# Altium schematic symbol library maxim.SCHLIB: 502 symbols (part 3 of 4)
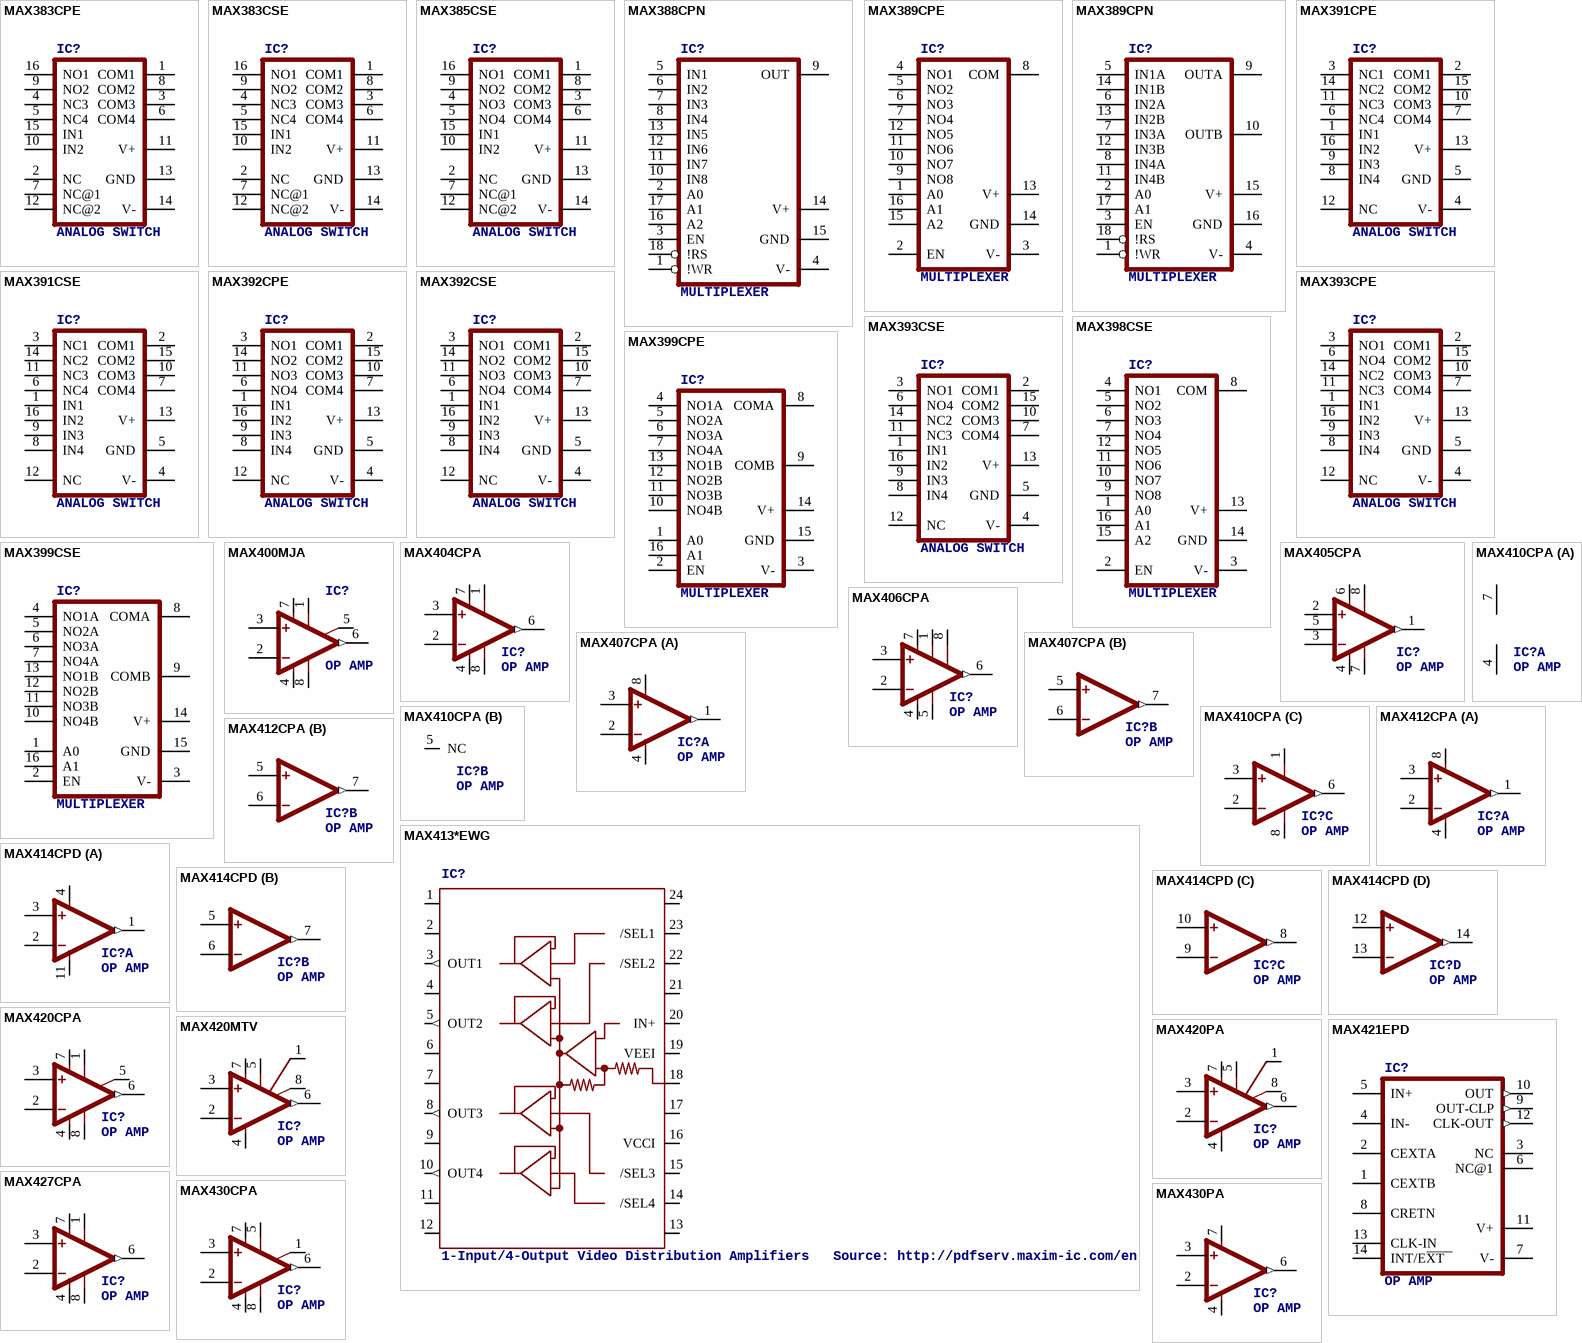
[diagram p32: symbols MAX383CPE to MAX430PA]

## MAX406CPA
designator IC?, comment OP AMP
OC_FARNELL: unknown; OC_NEWARK: unknown
footprint DIL08
pins: 1 OFF1, 2 -IN, 3 +IN, 4 V- (power), 5 OFF2, 6 OUT (out), 7 V+ (power), 8 BW

## MAX407CPA
designator IC?, comment OP AMP
MPN: MAX407CPA+; OC_FARNELL: unknown; OC_NEWARK: 03M8833
footprint DIL08
part A pins: 1 OUT (out), 2 -IN, 3 +IN, 4 V- (power), 8 V+ (power)
part B pins: 5 +IN, 6 -IN, 7 OUT (out)

## MAX410CPA
designator IC?, comment OP AMP
MPN: MAX410CPA; OC_FARNELL: unknown; OC_NEWARK: 34C3886
footprint DIL08
part A pins: 4 V- (power), 7 V+ (power)
part B pins: 5 NC
part C pins: 1 OFF1, 2 -IN, 3 +IN, 6 OUT (out), 8 OFF2

## MAX412CPA
designator IC?, comment OP AMP
MPN: MAX412CPA; OC_FARNELL: unknown; OC_NEWARK: 99K3347
footprint DIL08
part A pins: 1 OUT (out), 2 -IN, 3 +IN, 4 V- (power), 8 V+ (power)
part B pins: 5 +IN, 6 -IN, 7 OUT (out)

## MAX413*EWG
designator IC?, comment 1-Input/4-Output Video Distribution Amplifiers   Source: http://pdfserv.maxim-ic.com/en/ds/MAX4137-MAX4138.pdf
OC_FARNELL: unknown; OC_NEWARK: unknown
footprint SO24L
pins: 1 NC1, 2 VCCO@1 (power), 3 OUT1 (out), 4 GND@1 (power), 5 OUT2 (out), 6 VEEO@1 (power), 7 VEEO@2 (power), 8 OUT3 (out), 9 GND@2 (power), 10 OUT4 (out), 11 VCCO@2 (power), 12 NC12, 13 NC13, 14 /SEL4, 15 /SEL3, 16 VCCI (power), 17 NC17, 18 AGND@3 (power), 19 VEEI (power), 20 IN+, 21 AGND@4 (power), 22 /SEL2, 23 /SEL1, 24 NC24

## MAX414CPD
designator IC?, comment OP AMP
MPN: MAX414CPD+; OC_FARNELL: unknown; OC_NEWARK: 18M7422
footprint DIL14
part A pins: 1 OUT (out), 2 -IN, 3 +IN, 4 V+ (power), 11 V- (power)
part B pins: 5 +IN, 6 -IN, 7 OUT (out)
part C pins: 8 OUT (out), 9 -IN, 10 +IN
part D pins: 12 +IN, 13 -IN, 14 OUT (out)

## MAX420CPA
designator IC?, comment OP AMP
OC_FARNELL: unknown; OC_NEWARK: unknown
footprint DIL08
pins: 1 CEXTA, 2 -IN, 3 +IN, 4 V- (power), 5 CRETN, 6 OUT (out), 7 V+ (power), 8 CEXTB

## MAX420MTV
designator IC?, comment OP AMP
OC_FARNELL: unknown; OC_NEWARK: unknown
footprint TO99
pins: 1 CEXT1, 2 -IN, 3 +IN, 4 V- (power), 5 CRET, 6 OUT (out), 7 V+ (power), 8 CEXT2

## MAX420PA
designator IC?, comment OP AMP
OC_FARNELL: unknown; OC_NEWARK: unknown
footprint DIL08
pins: 1 CEXT1, 2 -IN, 3 +IN, 4 V- (power), 5 CRET, 6 OUT (out), 7 V+ (power), 8 CEXT2

## MAX421EPD
designator IC?, comment OP AMP
OC_FARNELL: unknown; OC_NEWARK: unknown
footprint DIL14
pins: 1 CEXTB, 2 CEXTA, 3 NC, 4 IN-, 5 IN+, 6 NC@1, 7 V- (power), 8 CRETN, 9 OUT-CLP (out), 10 OUT (out), 11 V+ (power), 12 CLK-OUT (out), 13 CLK-IN, 14 INT/EXT

## MAX427CPA
designator IC?, comment OP AMP
OC_FARNELL: unknown; OC_NEWARK: unknown
footprint DIL08
pins: 1 OFF1, 2 -IN, 3 +IN, 4 V- (power), 6 OUT (out), 7 V+ (power), 8 OFF2

## MAX430CPA
designator IC?, comment OP AMP
OC_FARNELL: unknown; OC_NEWARK: unknown
footprint DIL08
pins: 1 NC, 2 -IN, 3 +IN, 4 V- (power), 5 NC@1, 6 OUT (out), 7 V+ (power), 8 NC@2

## MAX430PA
designator IC?, comment OP AMP
OC_FARNELL: unknown; OC_NEWARK: unknown
footprint DIL08
pins: 2 -IN, 3 +IN, 4 V- (power), 6 OUT (out), 7 V+ (power)

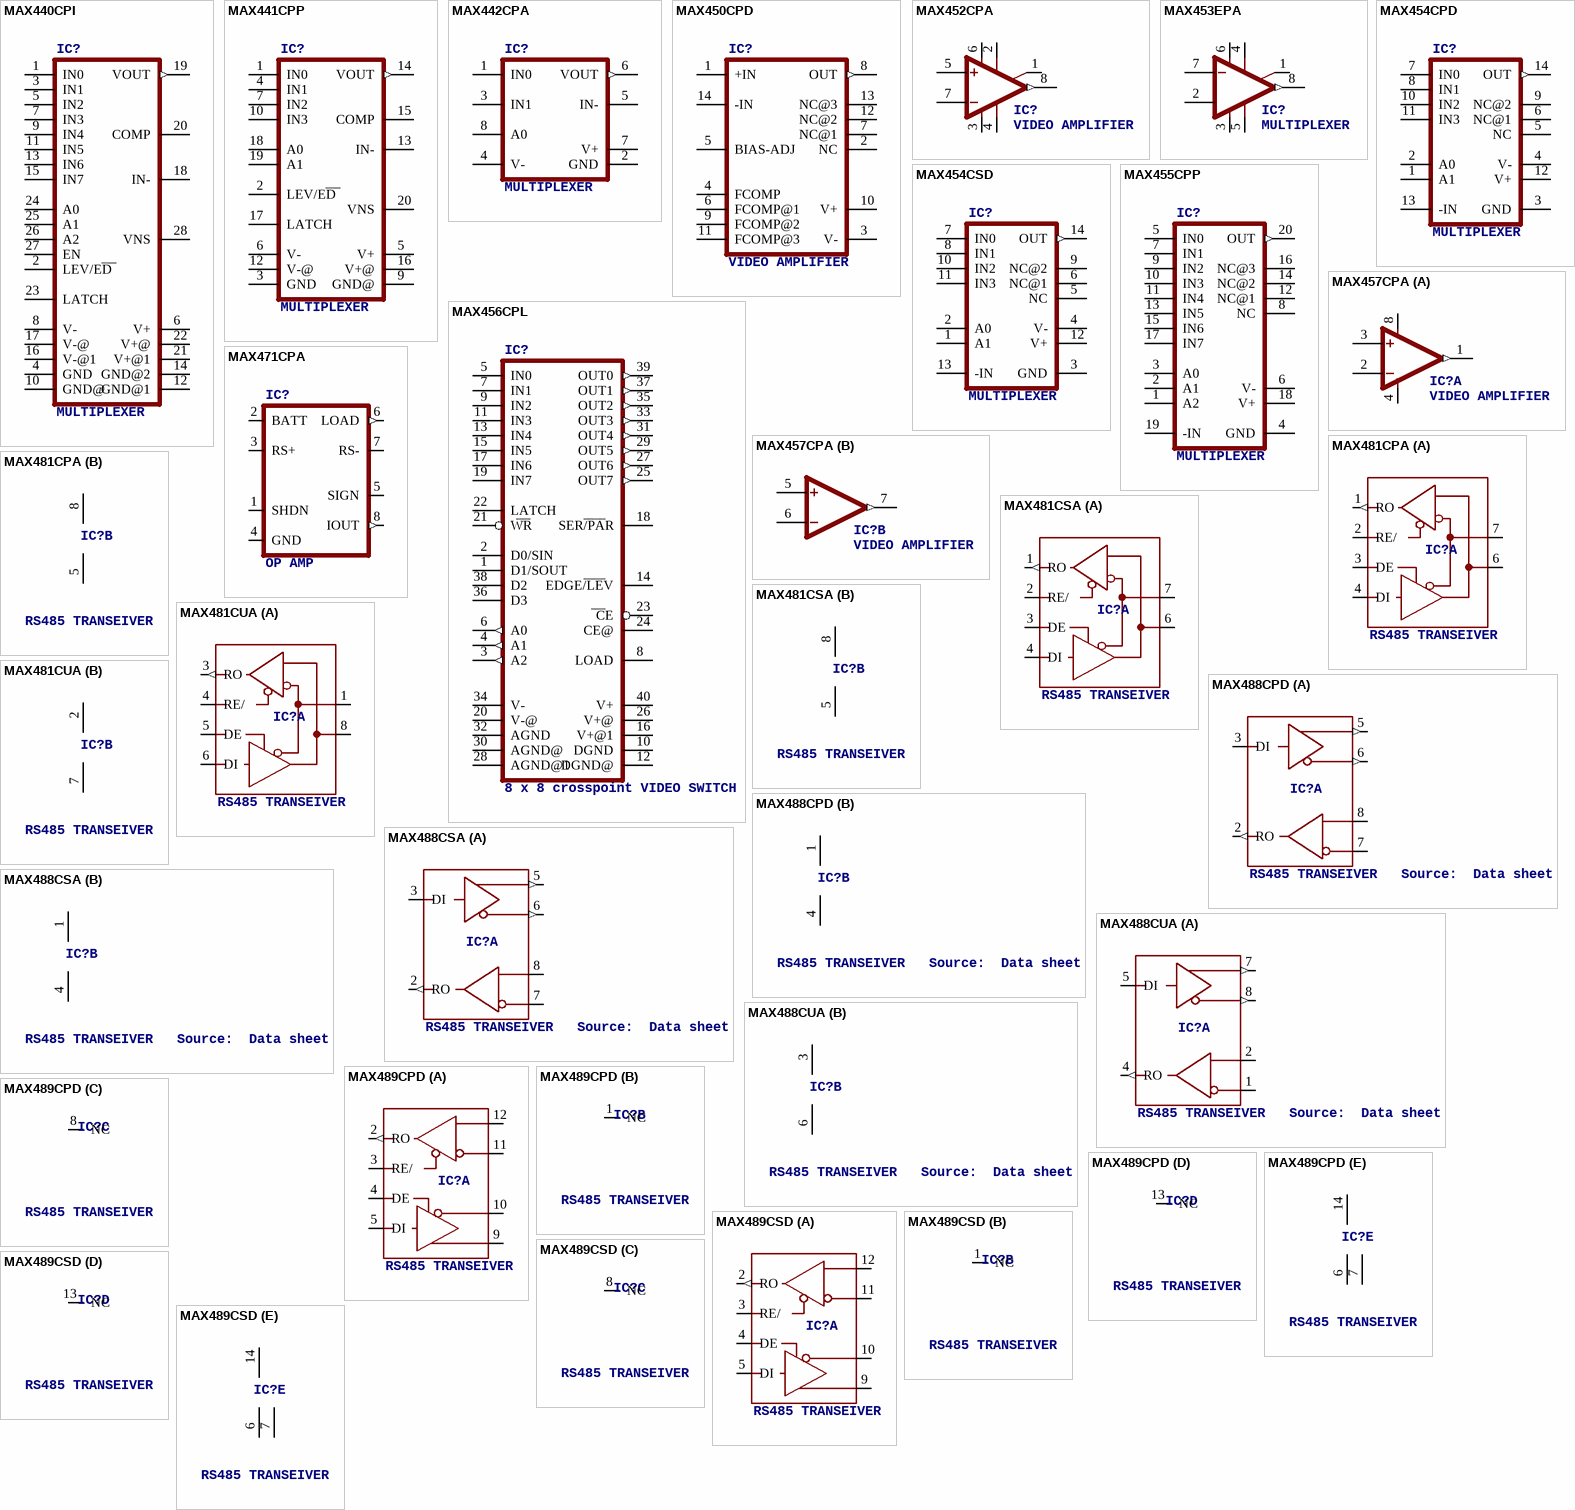
[diagram p17: symbols MAX440CPI to MAX489CSD]

## MAX440CPI
designator IC?, comment MULTIPLEXER
OC_FARNELL: unknown; OC_NEWARK: unknown
footprint DIL28-6
pins: 1 IN0, 2 LEV/ED, 3 IN1, 4 GND (power), 5 IN2, 6 V+ (power), 7 IN3, 8 V- (power), 9 IN4, 10 GND@ (power), 11 IN5, 12 GND@1 (power), 13 IN6, 14 GND@2 (power), 15 IN7, 16 V-@1 (power), 17 V-@ (power), 18 IN-, 19 VOUT (out), 20 COMP, 21 V+@1 (power), 22 V+@ (power), 23 LATCH, 24 A0, 25 A1, 26 A2, 27 EN, 28 VNS

## MAX441CPP
designator IC?, comment MULTIPLEXER
OC_FARNELL: unknown; OC_NEWARK: unknown
footprint DIL20
pins: 1 IN0, 2 LEV/ED, 3 GND (power), 4 IN1, 5 V+ (power), 6 V- (power), 7 IN2, 9 GND@ (power), 10 IN3, 12 V-@ (power), 13 IN-, 14 VOUT (out), 15 COMP, 16 V+@ (power), 17 LATCH, 18 A0, 19 A1, 20 VNS

## MAX442CPA
designator IC?, comment MULTIPLEXER
OC_FARNELL: unknown; OC_NEWARK: unknown
footprint DIL08
pins: 1 IN0, 2 GND (power), 3 IN1, 4 V- (power), 5 IN-, 6 VOUT (out), 7 V+ (power), 8 A0

## MAX450CPD
designator IC?, comment VIDEO AMPLIFIER
OC_FARNELL: unknown; OC_NEWARK: unknown
footprint DIL14
pins: 1 +IN, 2 NC, 3 V- (power), 4 FCOMP, 5 BIAS-ADJ, 6 FCOMP@1, 7 NC@1, 8 OUT (out), 9 FCOMP@2, 10 V+ (power), 11 FCOMP@3, 12 NC@2, 13 NC@3, 14 -IN

## MAX452CPA
designator IC?, comment VIDEO AMPLIFIER
MPN: MAX452CPA+; OC_FARNELL: 788910; OC_NEWARK: 99K3387
footprint DIL08
pins: 1 NC, 2 NC@1, 3 V- (power), 4 NC@2, 5 +IN, 6 V+ (power), 7 -IN, 8 OUT (out)

## MAX453EPA
designator IC?, comment MULTIPLEXER
OC_FARNELL: unknown; OC_NEWARK: unknown
footprint DIL08
pins: 1 A0, 2 GND (power), 3 V- (power), 4 IN0, 5 IN1, 6 V+ (power), 7 -IN, 8 OUT (out)

## MAX454CPD
designator IC?, comment MULTIPLEXER
MPN: MAX454CPD+; MF: MAXIM; OC_FARNELL: unknown; OC_NEWARK: 67K5326
footprint DIL14
pins: 1 A1, 2 A0, 3 GND (power), 4 V- (power), 5 NC, 6 NC@1, 7 IN0, 8 IN1, 9 NC@2, 10 IN2, 11 IN3, 12 V+ (power), 13 -IN, 14 OUT (out)

## MAX454CSD
designator IC?, comment MULTIPLEXER
MPN: MAX454CSD+; OC_FARNELL: unknown; OC_NEWARK: 67K5327
footprint SO14
pins: 1 A1, 2 A0, 3 GND (power), 4 V- (power), 5 NC, 6 NC@1, 7 IN0, 8 IN1, 9 NC@2, 10 IN2, 11 IN3, 12 V+ (power), 13 -IN, 14 OUT (out)

## MAX455CPP
designator IC?, comment MULTIPLEXER
MPN: MAX455CPP+; MF: MAXIM; OC_FARNELL: 1422330; OC_NEWARK: 68K4740
footprint DIL20
pins: 1 A2, 2 A1, 3 A0, 4 GND (power), 5 IN0, 6 V- (power), 7 IN1, 8 NC, 9 IN2, 10 IN3, 11 IN4, 12 NC@1, 13 IN5, 14 NC@2, 15 IN6, 16 NC@3, 17 IN7, 18 V+ (power), 19 -IN, 20 OUT (out)

## MAX456CPL
designator IC?, comment 8 x 8 crosspoint VIDEO SWITCH
MPN: MAX456CPL+; OC_FARNELL: unknown; OC_NEWARK: 65K6903
footprint DIL40
pins: 1 D1/SOUT, 2 D0/SIN, 3 A2 (out), 4 A1 (out), 5 IN0, 6 A0 (out), 7 IN1, 8 LOAD, 9 IN2, 10 DGND (power), 11 IN3, 12 DGND@ (power), 13 IN4, 14 EDGE/LEV, 15 IN5, 16 V+@1 (power), 17 IN6, 18 SER/PAR, 19 IN7, 20 V-@ (power), 21 WR, 22 LATCH, 23 CE, 24 CE@, 25 OUT7 (out), 26 V+@ (power), 27 OUT6 (out), 28 AGND@1 (power), 29 OUT5 (out), 30 AGND@ (power), 31 OUT4 (out), 32 AGND (power), 33 OUT3 (out), 34 V- (power), 35 OUT2 (out), 36 D3, 37 OUT1 (out), 38 D2, 39 OUT0 (out), 40 V+ (power)

## MAX457CPA
designator IC?, comment VIDEO AMPLIFIER
MPN: MAX457CPA+; OC_FARNELL: 1188058; OC_NEWARK: 73K8613
footprint DIL08
part A pins: 1 OUT (out), 2 -IN, 3 +IN, 4 V- (power), 8 V+ (power)
part B pins: 5 +IN, 6 -IN, 7 OUT (out)

## MAX471CPA
designator IC?, comment OP AMP
OC_FARNELL: unknown; OC_NEWARK: unknown
footprint DIL08
pins: 1 SHDN, 2 BATT, 3 RS+, 4 GND (power), 5 SIGN (oc), 6 LOAD (out), 7 RS-, 8 IOUT (out)

## MAX481CPA
designator IC?, comment RS485 TRANSEIVER
MPN: MAX481CPA+; OC_FARNELL: unknown; OC_NEWARK: 99K3445
footprint DIL08
part A pins: 1 RO (out), 2 RE/, 3 DE, 4 DI, 6 A, 7 B
part B pins: 5 GND (power), 8 VCC (power)

## MAX481CSA
designator IC?, comment RS485 TRANSEIVER
MPN: MAX481CSA; MF: MAXIM; OC_FARNELL: unknown; OC_NEWARK: 90C3817
footprint SO08
part A pins: 1 RO (out), 2 RE/, 3 DE, 4 DI, 6 A, 7 B
part B pins: 5 GND (power), 8 VCC (power)

## MAX481CUA
designator IC?, comment RS485 TRANSEIVER
MPN: MAX481CUA+; OC_FARNELL: unknown; OC_NEWARK: 71P2381
footprint UMAX8
part A pins: 1 B, 3 RO (out), 4 RE/, 5 DE, 6 DI, 8 A
part B pins: 2 VCC (power), 7 GND (power)

## MAX488CPD
designator IC?, comment RS485 TRANSEIVER   Source:  Data sheet
OC_FARNELL: unknown; OC_NEWARK: unknown
footprint DIL08
part A pins: 2 RO (out), 3 DI, 5 Y (out), 6 Z (out), 7 B, 8 A
part B pins: 1 VCC (power), 4 GND (power)

## MAX488CSA
designator IC?, comment RS485 TRANSEIVER   Source:  Data sheet
MPN: MAX488CSA; MF: MAXIM; OC_FARNELL: 3534170; OC_NEWARK: 34C3921
footprint SO08
part A pins: 2 RO (out), 3 DI, 5 Y (out), 6 Z (out), 7 B, 8 A
part B pins: 1 VCC (power), 4 GND (power)

## MAX488CUA
designator IC?, comment RS485 TRANSEIVER   Source:  Data sheet
MPN: MAX488CUA+; OC_FARNELL: unknown; OC_NEWARK: 99K3447
footprint UMAX8
part A pins: 1 B, 2 A, 4 RO (out), 5 DI, 7 Y (out), 8 Z (out)
part B pins: 3 VCC (power), 6 GND (power)

## MAX489CPD
designator IC?, comment RS485 TRANSEIVER
MPN: MAX489CPD; MF: MAXIM; OC_FARNELL: 9725148; OC_NEWARK: 34C3922
footprint DIL14
part A pins: 2 RO (out), 3 RE/, 4 DE, 5 DI, 9 Y, 10 Z, 11 B, 12 A
part B pins: 1 NC
part C pins: 8 NC
part D pins: 13 NC
part E pins: 6 GND@1 (power), 7 GND@2 (power), 14 VCC (power)

## MAX489CSD
designator IC?, comment RS485 TRANSEIVER
MPN: MAX489CSD; MF: MAXIM; OC_FARNELL: 9724559; OC_NEWARK: 34C3923
footprint SO14
part A pins: 2 RO (out), 3 RE/, 4 DE, 5 DI, 9 Y, 10 Z, 11 B, 12 A
part B pins: 1 NC
part C pins: 8 NC
part D pins: 13 NC
part E pins: 6 GND@1 (power), 7 GND@2 (power), 14 VCC (power)

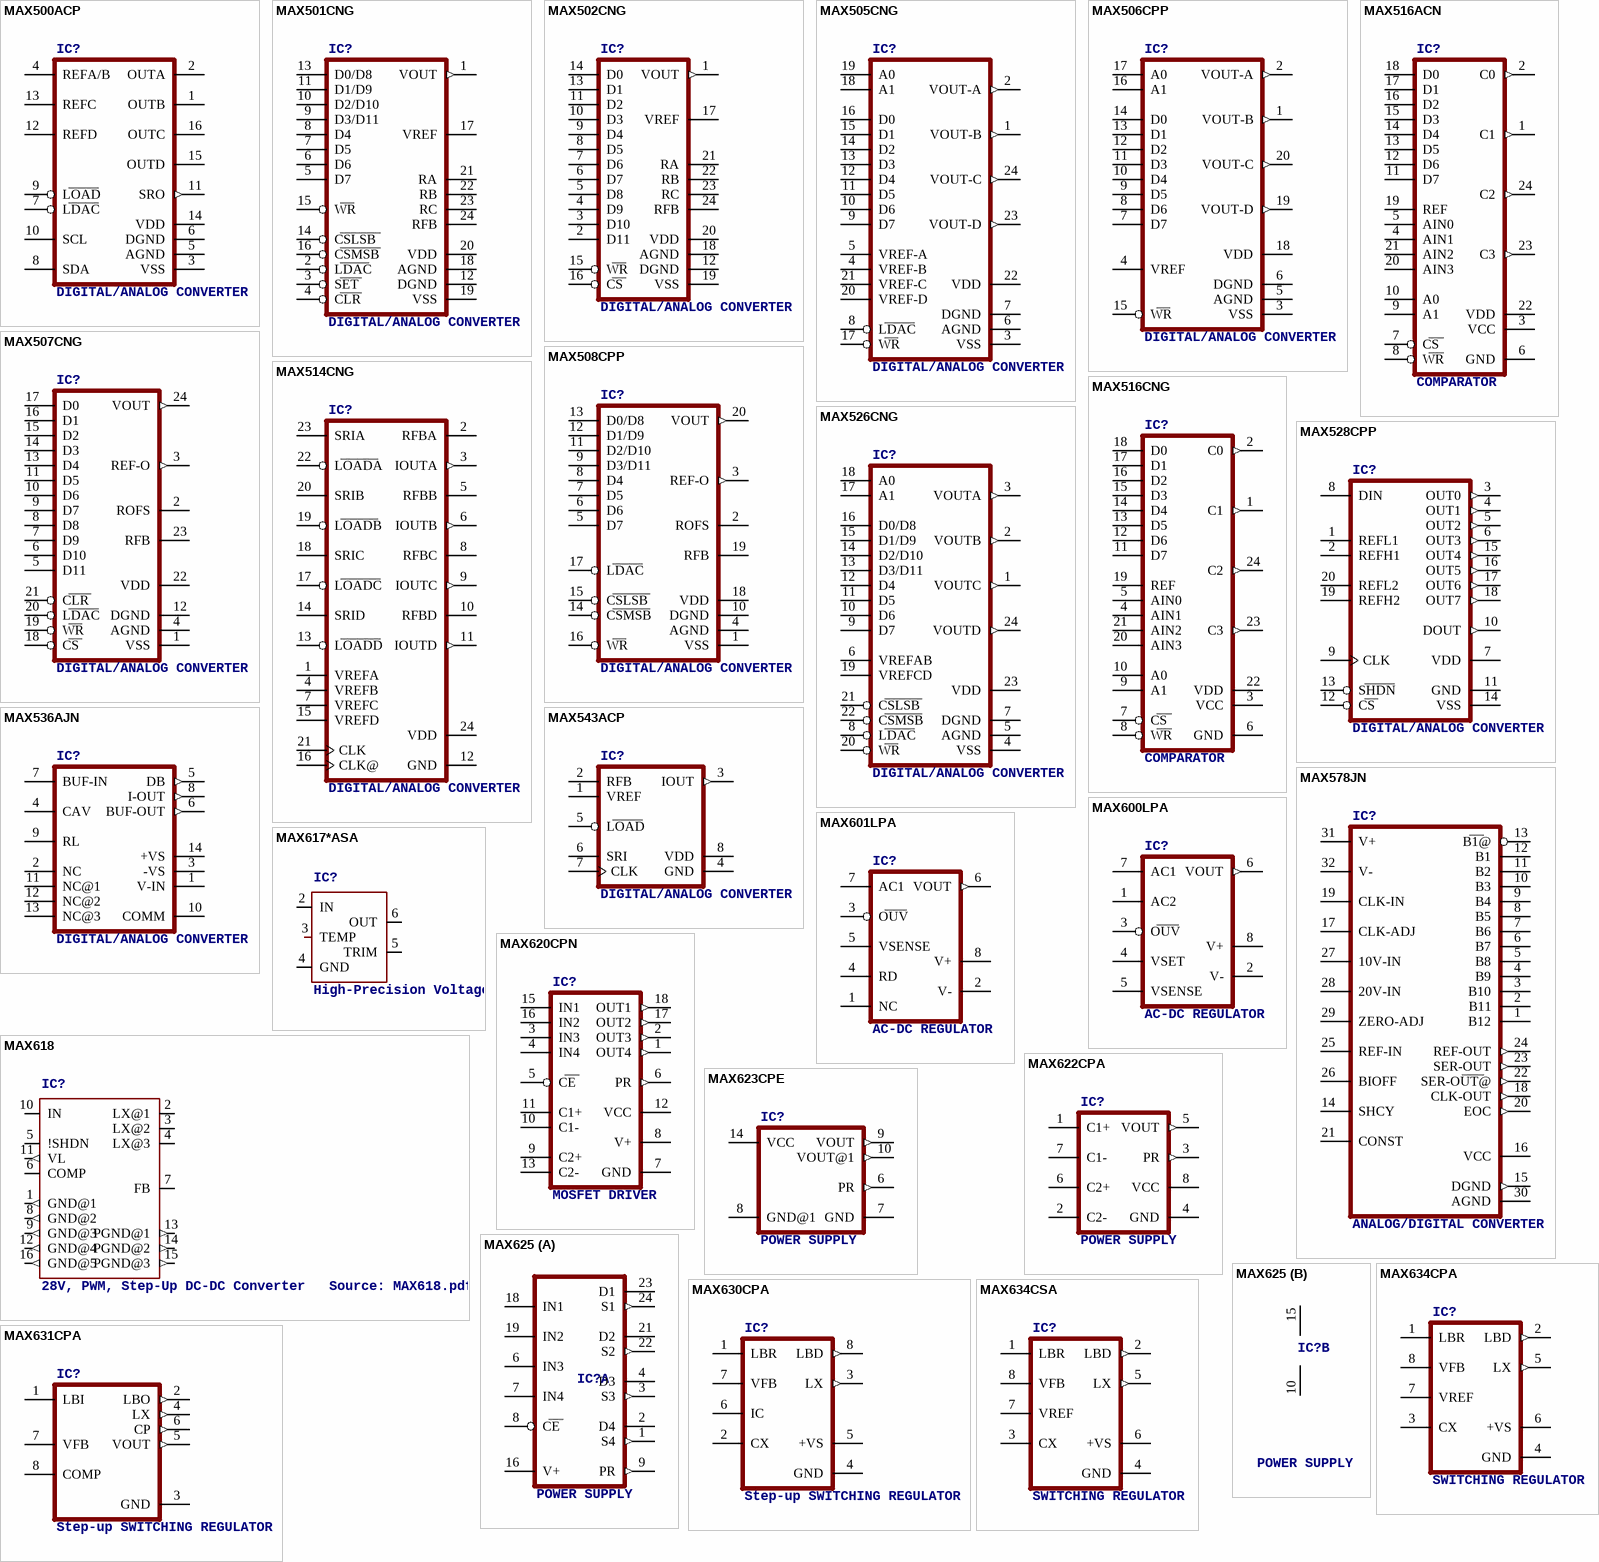
[diagram p18: symbols MAX500ACP to MAX634CSA]

## MAX500ACP
designator IC?, comment DIGITAL/ANALOG CONVERTER
MPN: MAX500ACPE+; MF: MAXIM; OC_FARNELL: 9726373; OC_NEWARK: 33K2077
footprint DIL16
pins: 1 OUTB (oe), 2 OUTA (oe), 3 VSS (power), 4 REFA/B, 5 AGND (power), 6 DGND (power), 7 LDAC, 8 SDA, 9 LOAD, 10 SCL, 11 SRO (out), 12 REFD, 13 REFC, 14 VDD (power), 15 OUTD (oe), 16 OUTC (oe)

## MAX501CNG
designator IC?, comment DIGITAL/ANALOG CONVERTER
OC_FARNELL: unknown; OC_NEWARK: unknown
footprint DIL24-3
pins: 1 VOUT (out), 2 LDAC, 3 SET, 4 CLR, 5 D7, 6 D6, 7 D5, 8 D4, 9 D3/D11, 10 D2/D10, 11 D1/D9, 12 DGND (power), 13 D0/D8, 14 CSLSB, 15 WR, 16 CSMSB, 17 VREF, 18 AGND (power), 19 VSS (power), 20 VDD (power), 21 RA, 22 RB, 23 RC, 24 RFB

## MAX502CNG
designator IC?, comment DIGITAL/ANALOG CONVERTER
OC_FARNELL: unknown; OC_NEWARK: unknown
footprint DIL24-3
pins: 1 VOUT (out), 2 D11, 3 D10, 4 D9, 5 D8, 6 D7, 7 D6, 8 D5, 9 D4, 10 D3, 11 D2, 12 DGND (power), 13 D1, 14 D0, 15 WR, 16 CS, 17 VREF, 18 AGND (power), 19 VSS (power), 20 VDD (power), 21 RA, 22 RB, 23 RC, 24 RFB

## MAX505CNG
designator IC?, comment DIGITAL/ANALOG CONVERTER
OC_FARNELL: unknown; OC_NEWARK: unknown
footprint DIL24-3
pins: 1 VOUT-B (out), 2 VOUT-A (out), 3 VSS (power), 4 VREF-B, 5 VREF-A, 6 AGND (power), 7 DGND (power), 8 LDAC, 9 D7, 10 D6, 11 D5, 12 D4, 13 D3, 14 D2, 15 D1, 16 D0, 17 WR, 18 A1, 19 A0, 20 VREF-D, 21 VREF-C, 22 VDD (power), 23 VOUT-D (out), 24 VOUT-C (out)

## MAX506CPP
designator IC?, comment DIGITAL/ANALOG CONVERTER
OC_FARNELL: unknown; OC_NEWARK: unknown
footprint DIL20
pins: 1 VOUT-B (out), 2 VOUT-A (out), 3 VSS (power), 4 VREF, 5 AGND (power), 6 DGND (power), 7 D7, 8 D6, 9 D5, 10 D4, 11 D3, 12 D2, 13 D1, 14 D0, 15 WR, 16 A1, 17 A0, 18 VDD (power), 19 VOUT-D (out), 20 VOUT-C (out)

## MAX507CNG
designator IC?, comment DIGITAL/ANALOG CONVERTER
OC_FARNELL: unknown; OC_NEWARK: unknown
footprint DIL24-3
pins: 1 VSS (power), 2 ROFS, 3 REF-O (out), 4 AGND (power), 5 D11, 6 D10, 7 D9, 8 D8, 9 D7, 10 D6, 11 D5, 12 DGND (power), 13 D4, 14 D3, 15 D2, 16 D1, 17 D0, 18 CS, 19 WR, 20 LDAC, 21 CLR, 22 VDD (power), 23 RFB, 24 VOUT (out)

## MAX508CPP
designator IC?, comment DIGITAL/ANALOG CONVERTER
OC_FARNELL: unknown; OC_NEWARK: unknown
footprint DIL20
pins: 1 VSS (power), 2 ROFS, 3 REF-O (out), 4 AGND (power), 5 D7, 6 D6, 7 D5, 8 D4, 9 D3/D11, 10 DGND (power), 11 D2/D10, 12 D1/D9, 13 D0/D8, 14 CSMSB, 15 CSLSB, 16 WR, 17 LDAC, 18 VDD (power), 19 RFB, 20 VOUT (out)

## MAX514CNG
designator IC?, comment DIGITAL/ANALOG CONVERTER
OC_FARNELL: unknown; OC_NEWARK: unknown
footprint DIL24-3
pins: 1 VREFA, 2 RFBA, 3 IOUTA (out), 4 VREFB, 5 RFBB, 6 IOUTB (out), 7 VREFC, 8 RFBC, 9 IOUTC (out), 10 RFBD, 11 IOUTD (out), 12 GND (power), 13 LOADD, 14 SRID, 15 VREFD, 16 CLK@, 17 LOADC, 18 SRIC, 19 LOADB, 20 SRIB, 21 CLK, 22 LOADA, 23 SRIA, 24 VDD (power)

## MAX516ACN
designator IC?, comment COMPARATOR
MPN: MAX516ACNG+; MF: MAXIM; OC_FARNELL: unknown; OC_NEWARK: 61K0519
footprint DIL24-3
pins: 1 C1 (out), 2 C0 (out), 3 VCC (power), 4 AIN1, 5 AIN0, 6 GND (power), 7 CS, 8 WR, 9 A1, 10 A0, 11 D7, 12 D6, 13 D5, 14 D4, 15 D3, 16 D2, 17 D1, 18 D0, 19 REF, 20 AIN3, 21 AIN2, 22 VDD (power), 23 C3 (out), 24 C2 (out)

## MAX516CNG
designator IC?, comment COMPARATOR
OC_FARNELL: unknown; OC_NEWARK: unknown
footprint DIL24-3
pins: 1 C1 (out), 2 C0 (out), 3 VCC (power), 4 AIN1, 5 AIN0, 6 GND (power), 7 CS, 8 WR, 9 A1, 10 A0, 11 D7, 12 D6, 13 D5, 14 D4, 15 D3, 16 D2, 17 D1, 18 D0, 19 REF, 20 AIN3, 21 AIN2, 22 VDD (power), 23 C3 (out), 24 C2 (out)

## MAX526CNG
designator IC?, comment DIGITAL/ANALOG CONVERTER
OC_FARNELL: unknown; OC_NEWARK: unknown
footprint DIL24-3
pins: 1 VOUTC (out), 2 VOUTB (out), 3 VOUTA (out), 4 VSS (power), 5 AGND (power), 6 VREFAB, 7 DGND (power), 8 LDAC, 9 D7, 10 D6, 11 D5, 12 D4, 13 D3/D11, 14 D2/D10, 15 D1/D9, 16 D0/D8, 17 A1, 18 A0, 19 VREFCD, 20 WR, 21 CSLSB, 22 CSMSB, 23 VDD (power), 24 VOUTD (out)

## MAX528CPP
designator IC?, comment DIGITAL/ANALOG CONVERTER
MPN: MAX528CPP; OC_FARNELL: 1379992; OC_NEWARK: 78C2818
footprint DIL20
pins: 1 REFL1, 2 REFH1, 3 OUT0 (out), 4 OUT1 (out), 5 OUT2 (out), 6 OUT3 (out), 7 VDD (power), 8 DIN, 9 CLK, 10 DOUT (out), 11 GND (power), 12 CS, 13 SHDN, 14 VSS (power), 15 OUT4 (out), 16 OUT5 (out), 17 OUT6 (out), 18 OUT7 (out), 19 REFH2, 20 REFL2

## MAX536AJN
designator IC?, comment DIGITAL/ANALOG CONVERTER
OC_FARNELL: unknown; OC_NEWARK: unknown
footprint DIL14
pins: 1 V-IN (power), 2 NC, 3 -VS (power), 4 CAV, 5 DB (out), 6 BUF-OUT (out), 7 BUF-IN, 8 I-OUT (out), 9 RL, 10 COMM (power), 11 NC@1, 12 NC@2, 13 NC@3, 14 +VS (power)

## MAX543ACP
designator IC?, comment DIGITAL/ANALOG CONVERTER
MPN: MAX543ACPA+; OC_FARNELL: unknown; OC_NEWARK: 67K5720
footprint DIL08
pins: 1 VREF, 2 RFB, 3 IOUT (out), 4 GND (power), 5 LOAD, 6 SRI, 7 CLK, 8 VDD (power)

## MAX578JN
designator IC?, comment ANALOG/DIGITAL CONVERTER
OC_FARNELL: unknown; OC_NEWARK: unknown
footprint DIL32
pins: 1 B12 (hiz), 2 B11 (hiz), 3 B10 (hiz), 4 B9 (hiz), 5 B8 (hiz), 6 B7 (hiz), 7 B6 (hiz), 8 B5 (hiz), 9 B4 (hiz), 10 B3 (hiz), 11 B2 (hiz), 12 B1 (hiz), 13 B1@ (hiz), 14 SHCY, 15 DGND (out), 16 VCC (power), 17 CLK-ADJ, 18 CLK-OUT (out), 19 CLK-IN, 20 EOC (out), 21 CONST, 22 SER-OUT@ (out), 23 SER-OUT (out), 24 REF-OUT (out), 25 REF-IN, 26 BIOFF, 27 10V-IN, 28 20V-IN, 29 ZERO-ADJ, 30 AGND (power), 31 V+, 32 V-

## MAX600LPA
designator IC?, comment AC-DC REGULATOR
OC_FARNELL: unknown; OC_NEWARK: unknown
footprint DIL08
pins: 1 AC2, 2 V- (power), 3 OUV, 4 VSET, 5 VSENSE, 6 VOUT (out), 7 AC1, 8 V+ (power)

## MAX601LPA
designator IC?, comment AC-DC REGULATOR
OC_FARNELL: unknown; OC_NEWARK: unknown
footprint DIL08
pins: 1 NC, 2 V- (power), 3 OUV, 4 RD, 5 VSENSE, 6 VOUT (out), 7 AC1, 8 V+ (power)

## MAX617*ASA
designator IC?, comment High-Precision Voltage References with Temperature Sensor   Source: http://datasheets.maxim-ic.com/en/ds/MAX6173-MAX6177.pdf
MPN: MAX6173AASA+; MPN: MAX6173BASA+; MPN: MAX6174AASA+; MPN: MAX6174BASA+; MPN: MAX6175AASA+; MPN: MAX6175BASA+; MPN: MAX6176AASA+; MPN: MAX6176BASA+; MPN: MAX6177AASA+; MPN: MAX6177BASA+; OC_FARNELL: unknown; OC_NEWARK: 61K0602; OC_NEWARK: 61K0604; OC_NEWARK: 61K0606; OC_NEWARK: 61K0608; OC_FARNELL: 1800780; OC_NEWARK: 61K0610; OC_NEWARK: 61K0612; OC_NEWARK: 61K0614; OC_NEWARK: 61K0616; OC_NEWARK: 61K0618; OC_NEWARK: 61K0620
footprint SO08
pins: 2 IN, 3 TEMP, 4 GND (power), 5 TRIM, 6 OUT

## MAX618
designator IC?, comment 28V, PWM, Step-Up DC-DC Converter   Source: MAX618.pdf
MPN: MAX618EEE+T; OC_FARNELL: 1379776; OC_NEWARK: 67K5972
footprint QSOP16
pins: 1 GND@1 (out), 2 LX@1 (oc), 3 LX@2 (oc), 4 LX@3 (oc), 5 !SHDN, 6 COMP, 7 FB, 8 GND@2 (out), 9 GND@3 (out), 10 IN, 11 VL (out), 12 GND@4 (out), 13 PGND@1 (out), 14 PGND@2 (out), 15 PGND@3 (out), 16 GND@5 (out)

## MAX620CPN
designator IC?, comment MOSFET DRIVER
MPN: MAX620CPN+; OC_FARNELL: unknown; OC_NEWARK: 27M4142
footprint DIL18
pins: 1 OUT4 (out), 2 OUT3 (out), 3 IN3, 4 IN4, 5 CE, 6 PR (out), 7 GND (power), 8 V+ (oe), 9 C2+, 10 C1-, 11 C1+, 12 VCC (power), 13 C2-, 15 IN1, 16 IN2, 17 OUT2 (out), 18 OUT1 (out)

## MAX622CPA
designator IC?, comment POWER SUPPLY
OC_FARNELL: unknown; OC_NEWARK: unknown
footprint DIL08
pins: 1 C1+, 2 C2-, 3 PR (out), 4 GND (power), 5 VOUT (out), 6 C2+, 7 C1-, 8 VCC (power)

## MAX623CPE
designator IC?, comment POWER SUPPLY
OC_FARNELL: unknown; OC_NEWARK: unknown
footprint DIL16
pins: 6 PR (out), 7 GND (power), 8 GND@1 (power), 9 VOUT (out), 10 VOUT@1 (out), 14 VCC (power)

## MAX625
designator IC?, comment POWER SUPPLY
MPN: MAX6250AEPA+; OC_FARNELL: 1714966; OC_NEWARK: 89K4247
footprint DIL24-3
part A pins: 1 S4 (out), 2 D4, 3 S3 (out), 4 D3, 6 IN3, 7 IN4, 8 CE, 9 PR (out), 16 V+ (power), 18 IN1, 19 IN2, 21 D2, 22 S2 (out), 23 D1, 24 S1 (out)
part B pins: 10 GND (power), 15 VCC (power)

## MAX630CPA
designator IC?, comment Step-up SWITCHING REGULATOR
MPN: MAX630CPA; MF: MAXIM; OC_FARNELL: unknown; OC_NEWARK: 34C3947
footprint DIL08
pins: 1 LBR, 2 CX, 3 LX (out), 4 GND (power), 5 +VS (power), 6 IC, 7 VFB, 8 LBD (out)

## MAX631CPA
designator IC?, comment Step-up SWITCHING REGULATOR
OC_FARNELL: unknown; OC_NEWARK: unknown
footprint DIL08
pins: 1 LBI, 2 LBO (out), 3 GND (power), 4 LX (out), 5 VOUT (out), 6 CP (out), 7 VFB, 8 COMP

## MAX634CPA
designator IC?, comment SWITCHING REGULATOR
MPN: MAX634CPA; OC_FARNELL: unknown; OC_NEWARK: 78C4814
footprint DIL08
pins: 1 LBR, 2 LBD (out), 3 CX, 4 GND (power), 5 LX (out), 6 +VS (power), 7 VREF, 8 VFB

## MAX634CSA
designator IC?, comment SWITCHING REGULATOR
MPN: MAX634CSA+; OC_FARNELL: 1673203; OC_NEWARK: 68K4925
footprint SO08
pins: 1 LBR, 2 LBD (out), 3 CX, 4 GND (power), 5 LX (out), 6 +VS (power), 7 VREF, 8 VFB

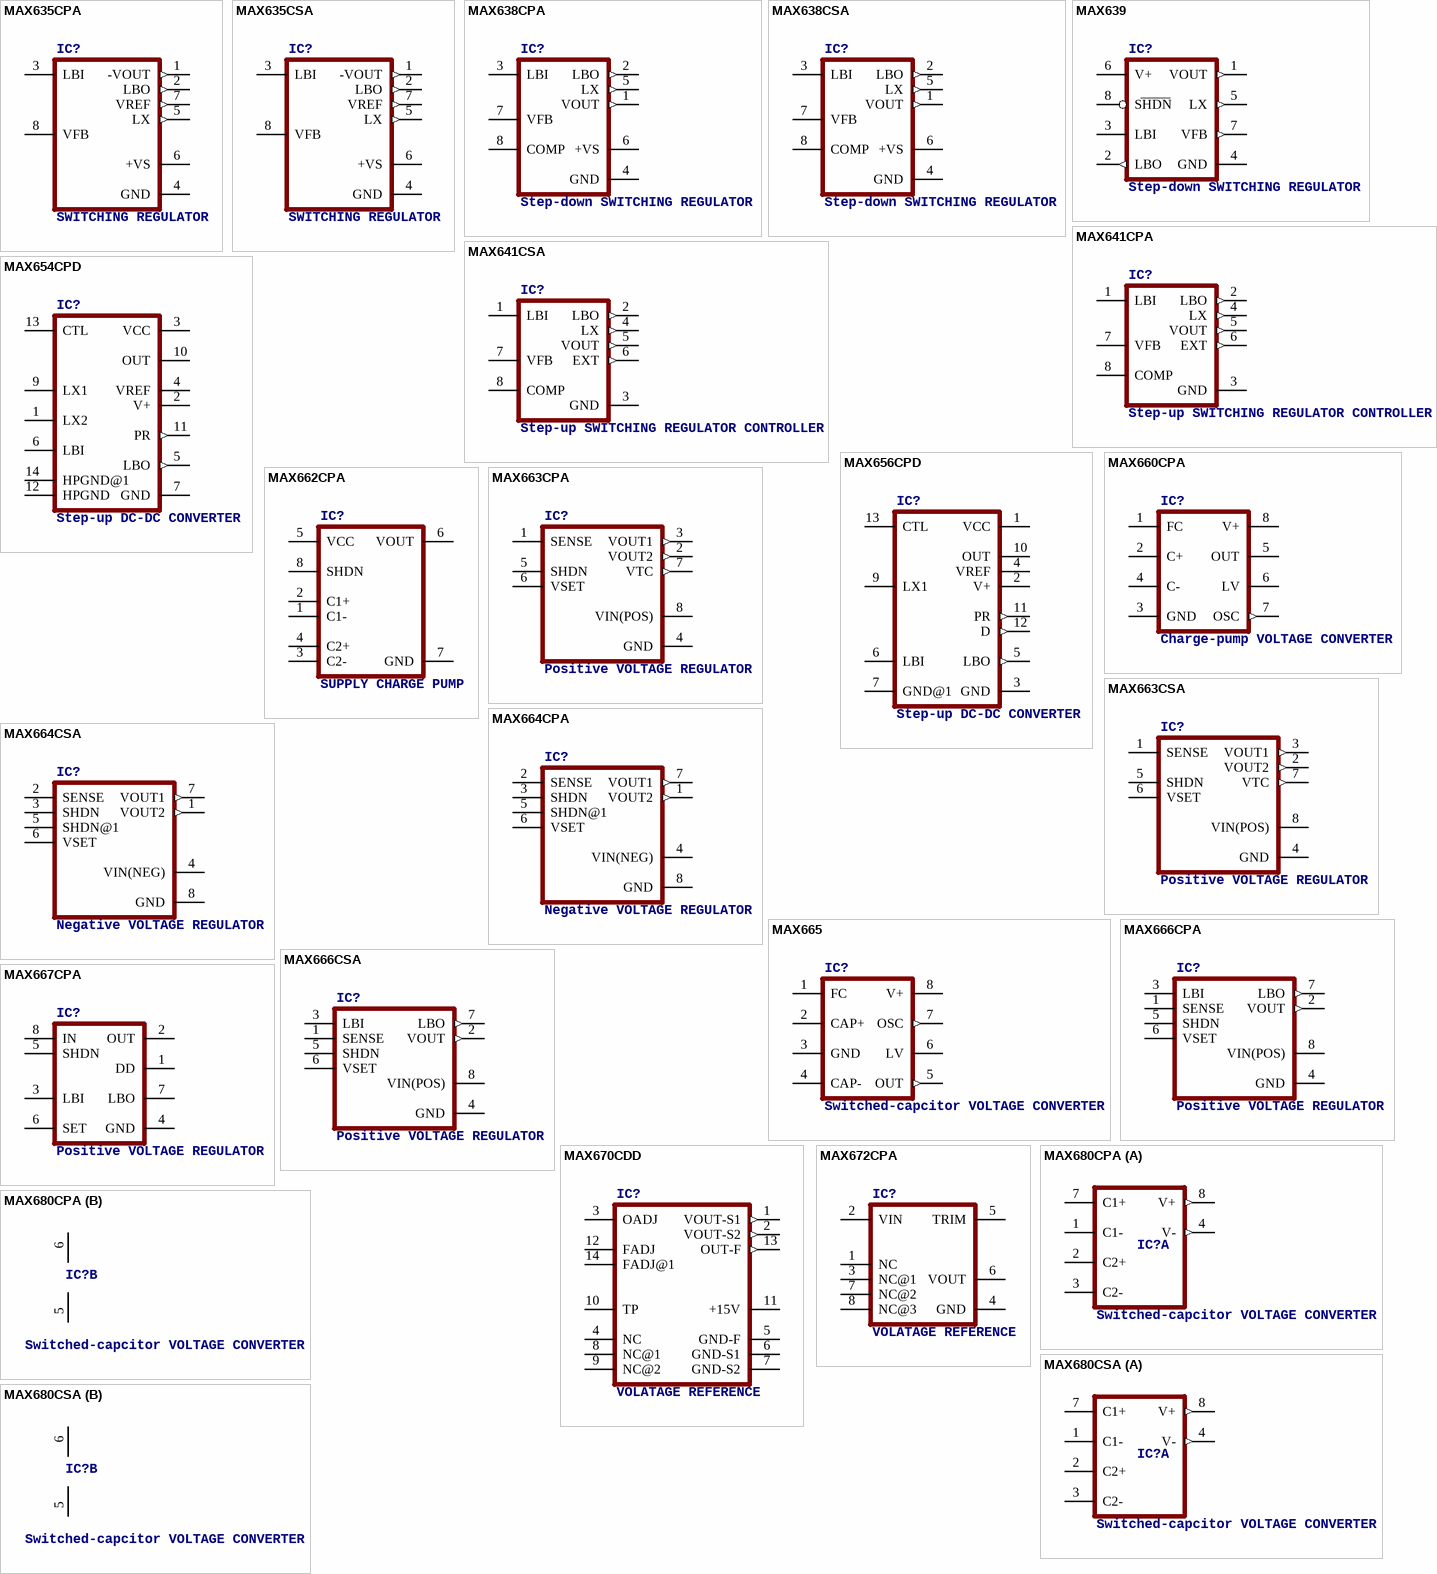
[diagram p19: symbols MAX635CPA to MAX680CSA]

## MAX635CPA
designator IC?, comment SWITCHING REGULATOR
OC_FARNELL: unknown; OC_NEWARK: unknown
footprint DIL08
pins: 1 -VOUT (out), 2 LBO (out), 3 LBI, 4 GND (power), 5 LX (out), 6 +VS (power), 7 VREF (out), 8 VFB

## MAX635CSA
designator IC?, comment SWITCHING REGULATOR
OC_FARNELL: unknown; OC_NEWARK: unknown
footprint SO08
pins: 1 -VOUT (out), 2 LBO (out), 3 LBI, 4 GND (power), 5 LX (out), 6 +VS (power), 7 VREF (out), 8 VFB

## MAX638CPA
designator IC?, comment Step-down SWITCHING REGULATOR
OC_FARNELL: unknown; OC_NEWARK: unknown
footprint DIL08
pins: 1 VOUT (out), 2 LBO (out), 3 LBI, 4 GND (power), 5 LX (out), 6 +VS (power), 7 VFB, 8 COMP

## MAX638CSA
designator IC?, comment Step-down SWITCHING REGULATOR
OC_FARNELL: unknown; OC_NEWARK: unknown
footprint SO08
pins: 1 VOUT (out), 2 LBO (out), 3 LBI, 4 GND (power), 5 LX (out), 6 +VS (power), 7 VFB, 8 COMP

## MAX639
designator IC?, comment Step-down SWITCHING REGULATOR
OC_FARNELL: 459604; OC_NEWARK: unknown
footprint DIL08
pins: 1 VOUT (out), 2 LBO (out), 3 LBI, 4 GND (power), 5 LX (out), 6 V+ (power), 7 VFB (out), 8 SHDN

## MAX641CPA
designator IC?, comment Step-up SWITCHING REGULATOR CONTROLLER
OC_FARNELL: unknown; OC_NEWARK: unknown
footprint DIL08
pins: 1 LBI, 2 LBO (out), 3 GND (power), 4 LX (out), 5 VOUT (out), 6 EXT (out), 7 VFB, 8 COMP

## MAX641CSA
designator IC?, comment Step-up SWITCHING REGULATOR CONTROLLER
OC_FARNELL: unknown; OC_NEWARK: unknown
footprint SO08
pins: 1 LBI, 2 LBO (out), 3 GND (power), 4 LX (out), 5 VOUT (out), 6 EXT (out), 7 VFB, 8 COMP

## MAX654CPD
designator IC?, comment Step-up DC-DC CONVERTER
OC_FARNELL: unknown; OC_NEWARK: unknown
footprint DIL14
pins: 1 LX2, 2 V+ (oe), 3 VCC (power), 4 VREF (oe), 5 LBO (out), 6 LBI, 7 GND (power), 9 LX1, 10 OUT (oe), 11 PR (out), 12 HPGND, 13 CTL, 14 HPGND@1

## MAX656CPD
designator IC?, comment Step-up DC-DC CONVERTER
OC_FARNELL: unknown; OC_NEWARK: unknown
footprint DIL14
pins: 1 VCC (power), 2 V+ (oe), 3 GND (power), 4 VREF (oe), 5 LBO (out), 6 LBI, 7 GND@1 (power), 9 LX1, 10 OUT (oe), 11 PR (out), 12 D (out), 13 CTL

## MAX660CPA
designator IC?, comment Charge-pump VOLTAGE CONVERTER
MPN: MAX660CPA; MF: MAXIM; OC_FARNELL: 1187928; OC_NEWARK: 34C3964
footprint DIL08
pins: 1 FC, 2 C+, 3 GND (power), 4 C-, 5 OUT (oe), 6 LV, 7 OSC (out), 8 V+ (power)

## MAX662CPA
designator IC?, comment SUPPLY CHARGE PUMP
OC_FARNELL: unknown; OC_NEWARK: unknown
footprint DIL08
pins: 1 C1-, 2 C1+, 3 C2-, 4 C2+, 5 VCC (power), 6 VOUT (oe), 7 GND (power), 8 SHDN

## MAX663CPA
designator IC?, comment Positive VOLTAGE REGULATOR
MPN: MAX663CPA+; OC_FARNELL: unknown; OC_NEWARK: 03M8949
footprint DIL08
pins: 1 SENSE, 2 VOUT2 (out), 3 VOUT1 (out), 4 GND (power), 5 SHDN, 6 VSET, 7 VTC (out), 8 VIN(POS) (power)

## MAX663CSA
designator IC?, comment Positive VOLTAGE REGULATOR
MPN: MAX663CSA; MF: MAXIM; OC_FARNELL: 1188015; OC_NEWARK: 34C3969
footprint SO08
pins: 1 SENSE, 2 VOUT2 (out), 3 VOUT1 (out), 4 GND (power), 5 SHDN, 6 VSET, 7 VTC (out), 8 VIN(POS) (power)

## MAX664CPA
designator IC?, comment Negative VOLTAGE REGULATOR
MPN: MAX664CPA+; OC_FARNELL: 642617; OC_NEWARK: 76K7012
footprint DIL08
pins: 1 VOUT2 (out), 2 SENSE, 3 SHDN, 4 VIN(NEG) (power), 5 SHDN@1, 6 VSET, 7 VOUT1 (out), 8 GND (power)

## MAX664CSA
designator IC?, comment Negative VOLTAGE REGULATOR
MPN: MAX664CSA; OC_FARNELL: unknown; OC_NEWARK: 78C8112
footprint SO08
pins: 1 VOUT2 (out), 2 SENSE, 3 SHDN, 4 VIN(NEG) (power), 5 SHDN@1, 6 VSET, 7 VOUT1 (out), 8 GND (power)

## MAX665
designator IC?, comment Switched-capcitor VOLTAGE CONVERTER
MPN: MAX665CPA+; OC_FARNELL: 1673209; OC_NEWARK: 99K3600
footprint DIL08
pins: 1 FC, 2 CAP+, 3 GND (power), 4 CAP-, 5 OUT (out), 6 LV, 7 OSC (out), 8 V+ (power)

## MAX666CPA
designator IC?, comment Positive VOLTAGE REGULATOR
MPN: MAX666CPA; MF: MAXIM; OC_FARNELL: 205280; OC_NEWARK: 34C3970
footprint DIL08
pins: 1 SENSE, 2 VOUT (out), 3 LBI, 4 GND (power), 5 SHDN, 6 VSET, 7 LBO (out), 8 VIN(POS) (power)

## MAX666CSA
designator IC?, comment Positive VOLTAGE REGULATOR
MPN: MAX666CSA; MF: MAXIM; OC_FARNELL: 1188016; OC_NEWARK: 34C3971
footprint SO08
pins: 1 SENSE, 2 VOUT (out), 3 LBI, 4 GND (power), 5 SHDN, 6 VSET, 7 LBO (out), 8 VIN(POS) (power)

## MAX667CPA
designator IC?, comment Positive VOLTAGE REGULATOR
MPN: MAX667CPA; MF: MAXIM; OC_FARNELL: 1187967; OC_NEWARK: 34C3972
footprint DIL08
pins: 1 DD, 2 OUT (oe), 3 LBI, 4 GND (power), 5 SHDN, 6 SET, 7 LBO, 8 IN

## MAX670CDD
designator IC?, comment VOLATAGE REFERENCE
OC_FARNELL: unknown; OC_NEWARK: unknown
footprint DIL14
pins: 1 VOUT-S1 (out), 2 VOUT-S2 (out), 3 OADJ, 4 NC, 5 GND-F (power), 6 GND-S1 (power), 7 GND-S2 (power), 8 NC@1, 9 NC@2, 10 TP, 11 +15V (power), 12 FADJ, 13 OUT-F (out), 14 FADJ@1

## MAX672CPA
designator IC?, comment VOLATAGE REFERENCE
OC_FARNELL: unknown; OC_NEWARK: unknown
footprint DIL08
pins: 1 NC, 2 VIN, 3 NC@1, 4 GND (power), 5 TRIM, 6 VOUT (power), 7 NC@2, 8 NC@3

## MAX680CPA
designator IC?, comment Switched-capcitor VOLTAGE CONVERTER
MPN: MAX680CPA; OC_FARNELL: 1187929; OC_NEWARK: 34C3974
footprint DIL08
part A pins: 1 C1-, 2 C2+, 3 C2-, 4 V- (out), 7 C1+, 8 V+ (out)
part B pins: 5 GND (power), 6 VCC (power)

## MAX680CSA
designator IC?, comment Switched-capcitor VOLTAGE CONVERTER
MPN: MAX680CSA; MF: MAXIM; OC_FARNELL: 9725717; OC_NEWARK: 34C3975
footprint SO08
part A pins: 1 C1-, 2 C2+, 3 C2-, 4 V- (out), 7 C1+, 8 V+ (out)
part B pins: 5 GND (power), 6 VCC (power)

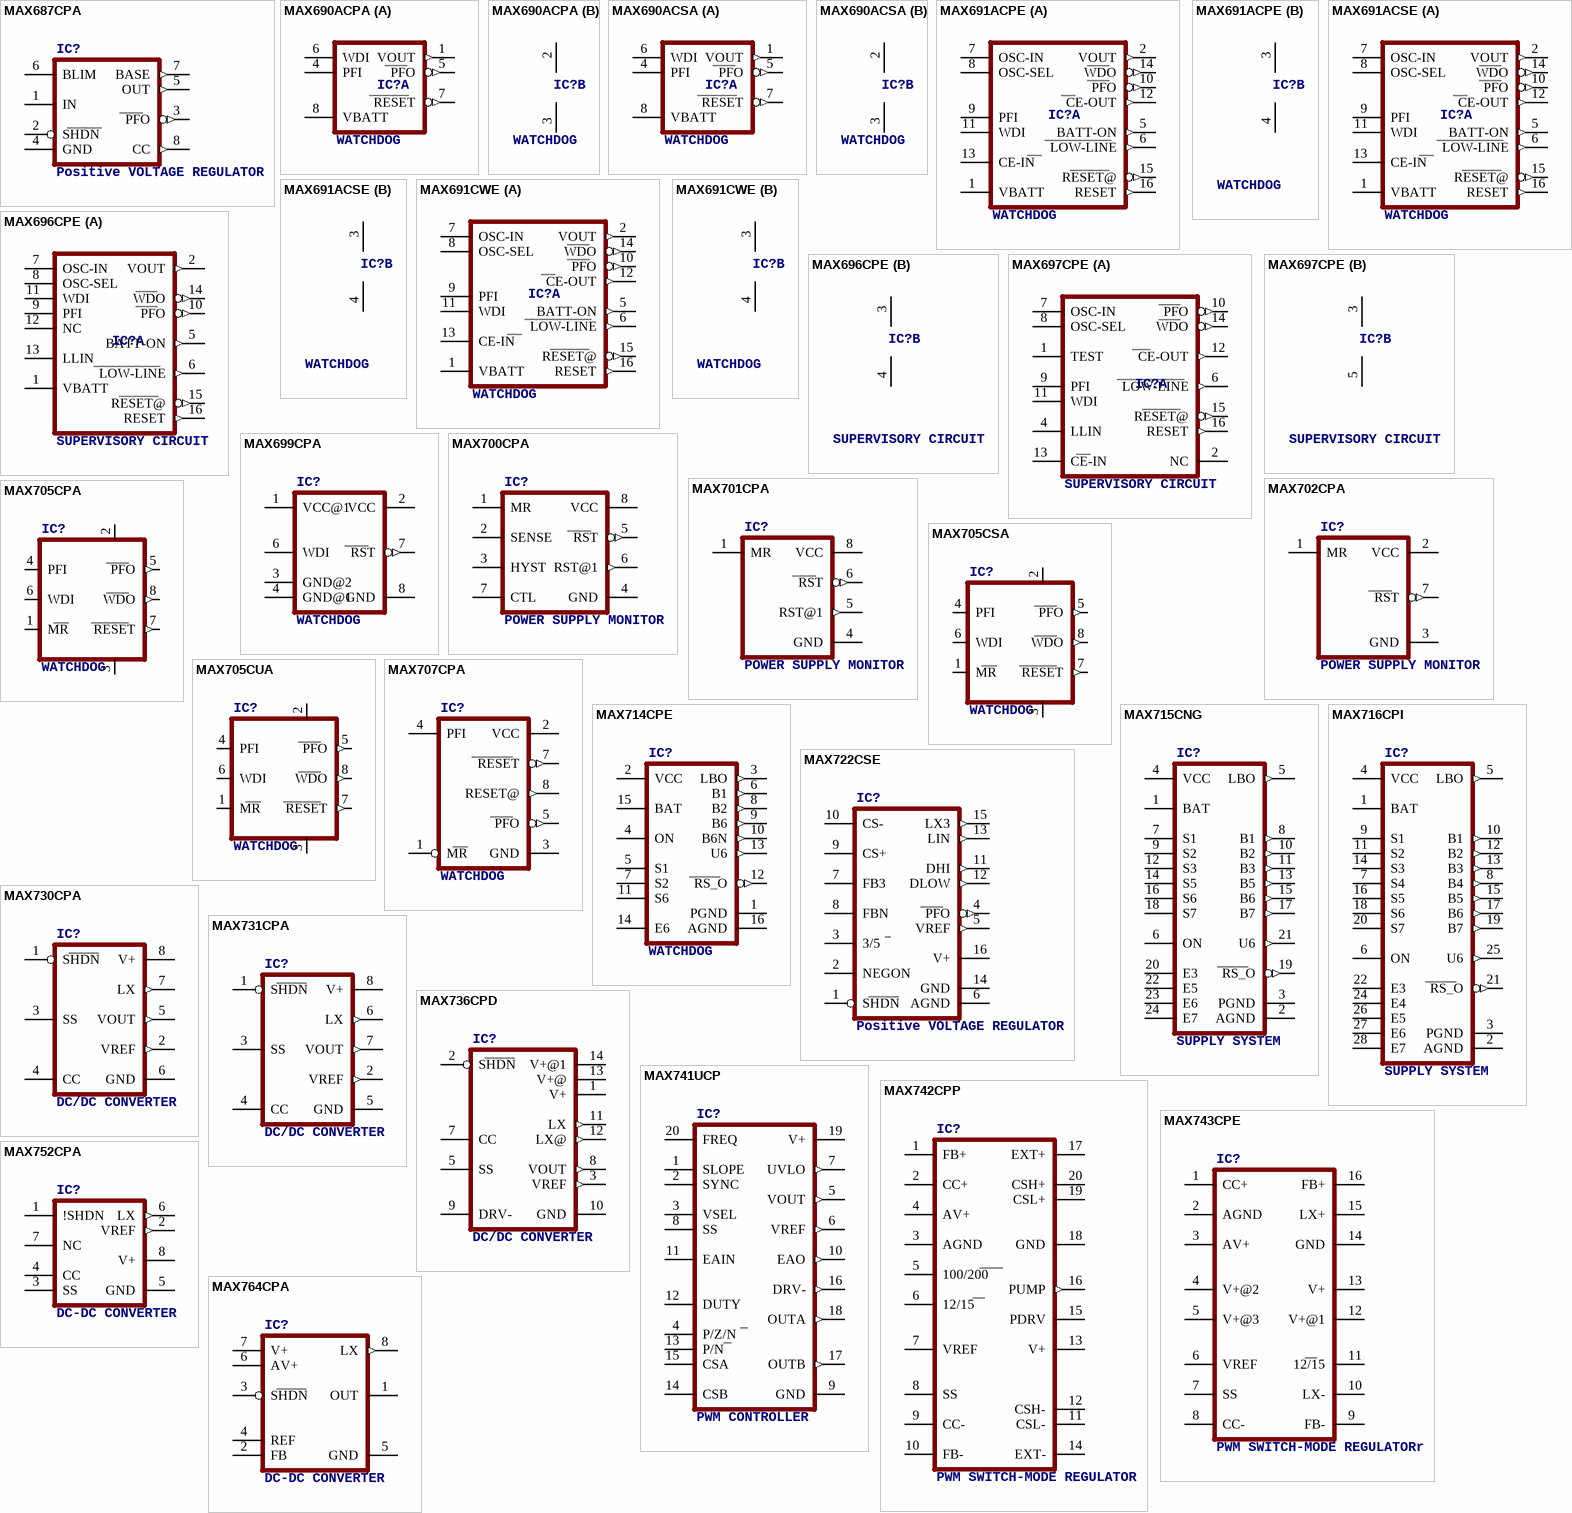
[diagram p20: symbols MAX687CPA to MAX764CPA]

## MAX687CPA
designator IC?, comment Positive VOLTAGE REGULATOR
OC_FARNELL: unknown; OC_NEWARK: unknown
footprint DIL08
pins: 1 IN, 2 SHDN, 3 PFO (out), 4 GND (power), 5 OUT (out), 6 BLIM, 7 BASE (out), 8 CC (out)

## MAX690ACPA
designator IC?, comment WATCHDOG
MPN: MAX690ACPA+; MF: MAXIM; OC_FARNELL: 9723781; OC_NEWARK: 28K3550
footprint DIL08
part A pins: 1 VOUT (out), 4 PFI, 5 PFO (out), 6 WDI, 7 RESET (out), 8 VBATT
part B pins: 2 VCC (power), 3 GND (power)

## MAX690ACSA
designator IC?, comment WATCHDOG
MPN: MAX690ACSA+; MF: MAXIM; OC_FARNELL: 9725938; OC_NEWARK: 59J6361
footprint SO08
part A pins: 1 VOUT (out), 4 PFI, 5 PFO (out), 6 WDI, 7 RESET (out), 8 VBATT
part B pins: 2 VCC (power), 3 GND (power)

## MAX691ACPE
designator IC?, comment WATCHDOG
MPN: MAX691ACPE+; MF: MAXIM; OC_FARNELL: 1523912; OC_NEWARK: 68K4991
footprint DIL16
part A pins: 1 VBATT, 2 VOUT (out), 5 BATT-ON (out), 6 LOW-LINE (out), 7 OSC-IN, 8 OSC-SEL, 9 PFI, 10 PFO (out), 11 WDI, 12 CE-OUT (out), 13 CE-IN, 14 WDO (out), 15 RESET@ (out), 16 RESET (out)
part B pins: 3 VCC (power), 4 GND (power)

## MAX691ACSE
designator IC?, comment WATCHDOG
MPN: MAX691ACSE+; MF: MAXIM; OC_FARNELL: 9725946; OC_NEWARK: 67K6559
footprint SO16
part A pins: 1 VBATT, 2 VOUT (out), 5 BATT-ON (out), 6 LOW-LINE (out), 7 OSC-IN, 8 OSC-SEL, 9 PFI, 10 PFO (out), 11 WDI, 12 CE-OUT (out), 13 CE-IN, 14 WDO (out), 15 RESET@ (out), 16 RESET (out)
part B pins: 3 VCC (power), 4 GND (power)

## MAX691CWE
designator IC?, comment WATCHDOG
MPN: MAX691CWE; MF: MAXIM; OC_FARNELL: 9724184; OC_NEWARK: 34C3984
footprint SO16L
part A pins: 1 VBATT, 2 VOUT (out), 5 BATT-ON (out), 6 LOW-LINE (out), 7 OSC-IN, 8 OSC-SEL, 9 PFI, 10 PFO (out), 11 WDI, 12 CE-OUT (out), 13 CE-IN, 14 WDO (out), 15 RESET@ (out), 16 RESET (out)
part B pins: 3 VCC (power), 4 GND (power)

## MAX696CPE
designator IC?, comment SUPERVISORY CIRCUIT
MPN: MAX696CPE+; OC_FARNELL: unknown; OC_NEWARK: 65K7628
footprint DIL16
part A pins: 1 VBATT, 2 VOUT (out), 5 BATT-ON (out), 6 LOW-LINE (out), 7 OSC-IN, 8 OSC-SEL, 9 PFI, 10 PFO (out), 11 WDI, 12 NC, 13 LLIN, 14 WDO (out), 15 RESET@ (out), 16 RESET (out)
part B pins: 3 VCC (power), 4 GND (power)

## MAX697CPE
designator IC?, comment SUPERVISORY CIRCUIT
MPN: MAX697CPE+; OC_FARNELL: unknown; OC_NEWARK: 89K6041
footprint DIL16
part A pins: 1 TEST, 2 NC, 4 LLIN, 6 LOW-LINE (out), 7 OSC-IN, 8 OSC-SEL, 9 PFI, 10 PFO (out), 11 WDI, 12 CE-OUT (out), 13 CE-IN, 14 WDO (out), 15 RESET@ (out), 16 RESET (out)
part B pins: 3 VCC (power), 5 GND (power)

## MAX699CPA
designator IC?, comment WATCHDOG
MPN: MAX699CPA+; MF: MAXIM; OC_FARNELL: unknown; OC_NEWARK: 65K7644
footprint DIL08
pins: 1 VCC@1 (power), 2 VCC (power), 3 GND@2 (power), 4 GND@1 (power), 6 WDI, 7 RST (out), 8 GND (power)

## MAX700CPA
designator IC?, comment POWER SUPPLY MONITOR
MPN: MAX700CPA+; MF: MAXIM; OC_FARNELL: 1187927; OC_NEWARK: 68K4995
footprint DIL08
pins: 1 MR, 2 SENSE, 3 HYST, 4 GND (power), 5 RST (out), 6 RST@1 (out), 7 CTL, 8 VCC (power)

## MAX701CPA
designator IC?, comment POWER SUPPLY MONITOR
MPN: MAX701CPA+; OC_FARNELL: unknown; OC_NEWARK: 89K6061
footprint DIL08
pins: 1 MR, 4 GND (power), 5 RST@1 (out), 6 RST (out), 8 VCC (power)

## MAX702CPA
designator IC?, comment POWER SUPPLY MONITOR
MPN: MAX702CPA+; MF: MAXIM; OC_FARNELL: 1188018; OC_NEWARK: 69K6744
footprint DIL08
pins: 1 MR, 2 VCC (power), 3 GND (power), 7 RST (out)

## MAX705CPA
designator IC?, comment WATCHDOG
MPN: MAX705CPA; OC_FARNELL: 9726004; OC_NEWARK: 34C4002
footprint DIL08
pins: 1 MR, 2 VCC (power), 3 GND (power), 4 PFI, 5 PFO (out), 6 WDI, 7 RESET (out), 8 WDO (out)

## MAX705CSA
designator IC?, comment WATCHDOG
MPN: MAX705CSA; MF: MAXIM; OC_FARNELL: 9726012; OC_NEWARK: 34C4003
footprint SO08
pins: 1 MR, 2 VCC (power), 3 GND (power), 4 PFI, 5 PFO (out), 6 WDI, 7 RESET (out), 8 WDO (out)

## MAX705CUA
designator IC?, comment WATCHDOG
MPN: MAX705CUA+; OC_FARNELL: unknown; OC_NEWARK: 13M2396
footprint UMAX8
pins: 1 MR, 2 VCC (power), 3 GND (power), 4 PFI, 5 PFO (out), 6 WDI, 7 RESET (out), 8 WDO (out)

## MAX707CPA
designator IC?, comment WATCHDOG
MPN: MAX707CPA; OC_FARNELL: 1188005; OC_NEWARK: 34C4006
footprint DIL08
pins: 1 MR, 2 VCC (power), 3 GND (power), 4 PFI, 5 PFO (out), 7 RESET (out), 8 RESET@ (out)

## MAX714CPE
designator IC?, comment WATCHDOG
OC_FARNELL: unknown; OC_NEWARK: unknown
footprint DIL16
pins: 1 PGND (power), 2 VCC (power), 3 LBO (out), 4 ON, 5 S1, 6 B1 (out), 7 S2, 8 B2 (out), 9 B6 (out), 10 B6N (out), 11 S6, 12 RS_O (out), 13 U6 (out), 14 E6, 15 BAT, 16 AGND (power)

## MAX715CNG
designator IC?, comment SUPPLY SYSTEM
OC_FARNELL: unknown; OC_NEWARK: unknown
footprint DIL24-3
pins: 1 BAT, 2 AGND (power), 3 PGND (power), 4 VCC (power), 5 LBO (out), 6 ON, 7 S1, 8 B1 (out), 9 S2, 10 B2 (out), 11 B3 (out), 12 S3, 13 B5 (out), 14 S5, 15 B6 (out), 16 S6, 17 B7 (out), 18 S7, 19 RS_O (out), 20 E3, 21 U6 (out), 22 E5, 23 E6, 24 E7

## MAX716CPI
designator IC?, comment SUPPLY SYSTEM
OC_FARNELL: unknown; OC_NEWARK: unknown
footprint DIL28-6
pins: 1 BAT, 2 AGND (power), 3 PGND (power), 4 VCC (power), 5 LBO (out), 6 ON, 7 S4, 8 B4 (out), 9 S1, 10 B1 (out), 11 S2, 12 B2 (out), 13 B3 (out), 14 S3, 15 B5 (out), 16 S5, 17 B6 (out), 18 S6, 19 B7 (out), 20 S7, 21 RS_O (out), 22 E3, 24 E4, 25 U6 (out), 26 E5, 27 E6, 28 E7

## MAX722CSE
designator IC?, comment Positive VOLTAGE REGULATOR
MPN: MAX722CSE+; OC_FARNELL: unknown; OC_NEWARK: 28M3052
footprint DIL16
pins: 1 SHDN, 2 NEGON, 3 3/5, 4 PFO (out), 5 VREF (out), 6 AGND (power), 7 FB3, 8 FBN, 9 CS+, 10 CS-, 11 DHI (out), 12 DLOW (out), 13 LIN (out), 14 GND (power), 15 LX3 (out), 16 V+ (power)

## MAX730CPA
designator IC?, comment DC/DC CONVERTER
OC_FARNELL: unknown; OC_NEWARK: unknown
footprint DIL08
pins: 1 SHDN, 2 VREF (out), 3 SS, 4 CC, 5 VOUT (out), 6 GND (power), 7 LX (out), 8 V+ (power)

## MAX731CPA
designator IC?, comment DC/DC CONVERTER
OC_FARNELL: unknown; OC_NEWARK: unknown
footprint DIL08
pins: 1 SHDN, 2 VREF (out), 3 SS, 4 CC, 5 GND (power), 6 LX (out), 7 VOUT (out), 8 V+ (power)

## MAX736CPD
designator IC?, comment DC/DC CONVERTER
MPN: MAX736CPD+; OC_FARNELL: unknown; OC_NEWARK: 13M2409
footprint DIL14
pins: 1 V+ (power), 2 SHDN, 3 VREF (out), 5 SS, 7 CC, 8 VOUT (out), 9 DRV-, 10 GND (power), 11 LX (out), 12 LX@ (out), 13 V+@ (power), 14 V+@1 (power)

## MAX741UCP
designator IC?, comment PWM CONTROLLER
OC_FARNELL: unknown; OC_NEWARK: unknown
footprint DIL20
pins: 1 SLOPE, 2 SYNC, 3 VSEL, 4 P/Z/N, 5 VOUT (out), 6 VREF (out), 7 UVLO (out), 8 SS, 9 GND (power), 10 EAO (out), 11 EAIN, 12 DUTY, 13 P/N, 14 CSB, 15 CSA, 16 DRV- (out), 17 OUTB (out), 18 OUTA (out), 19 V+ (power), 20 FREQ

## MAX742CPP
designator IC?, comment PWM SWITCH-MODE REGULATOR
MPN: MAX742CPP; MF: MAXIM; OC_FARNELL: unknown; OC_NEWARK: 79C2211
footprint DIL20
pins: 1 FB+, 2 CC+, 3 AGND (power), 4 AV+, 5 100/200, 6 12/15, 7 VREF (oe), 8 SS, 9 CC-, 10 FB-, 11 CSL-, 12 CSH-, 13 V+, 14 EXT- (hiz), 15 PDRV, 16 PUMP (out), 17 EXT+ (hiz), 18 GND (power), 19 CSL+, 20 CSH+

## MAX743CPE
designator IC?, comment PWM SWITCH-MODE REGULATORr
MPN: MAX743CPE; MF: MAXIM; OC_FARNELL: 1187931; OC_NEWARK: 79C2246
footprint DIL16
pins: 1 CC+, 2 AGND (power), 3 AV+, 4 V+@2, 5 V+@3, 6 VREF (oe), 7 SS, 8 CC-, 9 FB-, 10 LX-, 11 12/15, 12 V+@1, 13 V+, 14 GND (power), 15 LX+, 16 FB+

## MAX752CPA
designator IC?, comment DC-DC CONVERTER
MPN: MAX752CPA; MF: MAXIM; OC_FARNELL: unknown; OC_NEWARK: 79C2295
footprint DIL08
pins: 1 !SHDN, 2 VREF (out), 3 SS, 4 CC, 5 GND (power), 6 LX (out), 7 NC, 8 V+ (power)

## MAX764CPA
designator IC?, comment DC-DC CONVERTER
MPN: MAX764CPA+; OC_FARNELL: 1422353; OC_NEWARK: 89K6221
footprint DIL08
pins: 1 OUT (oe), 2 FB, 3 SHDN, 4 REF, 5 GND (power), 6 AV+ (power), 7 V+ (power), 8 LX (out)

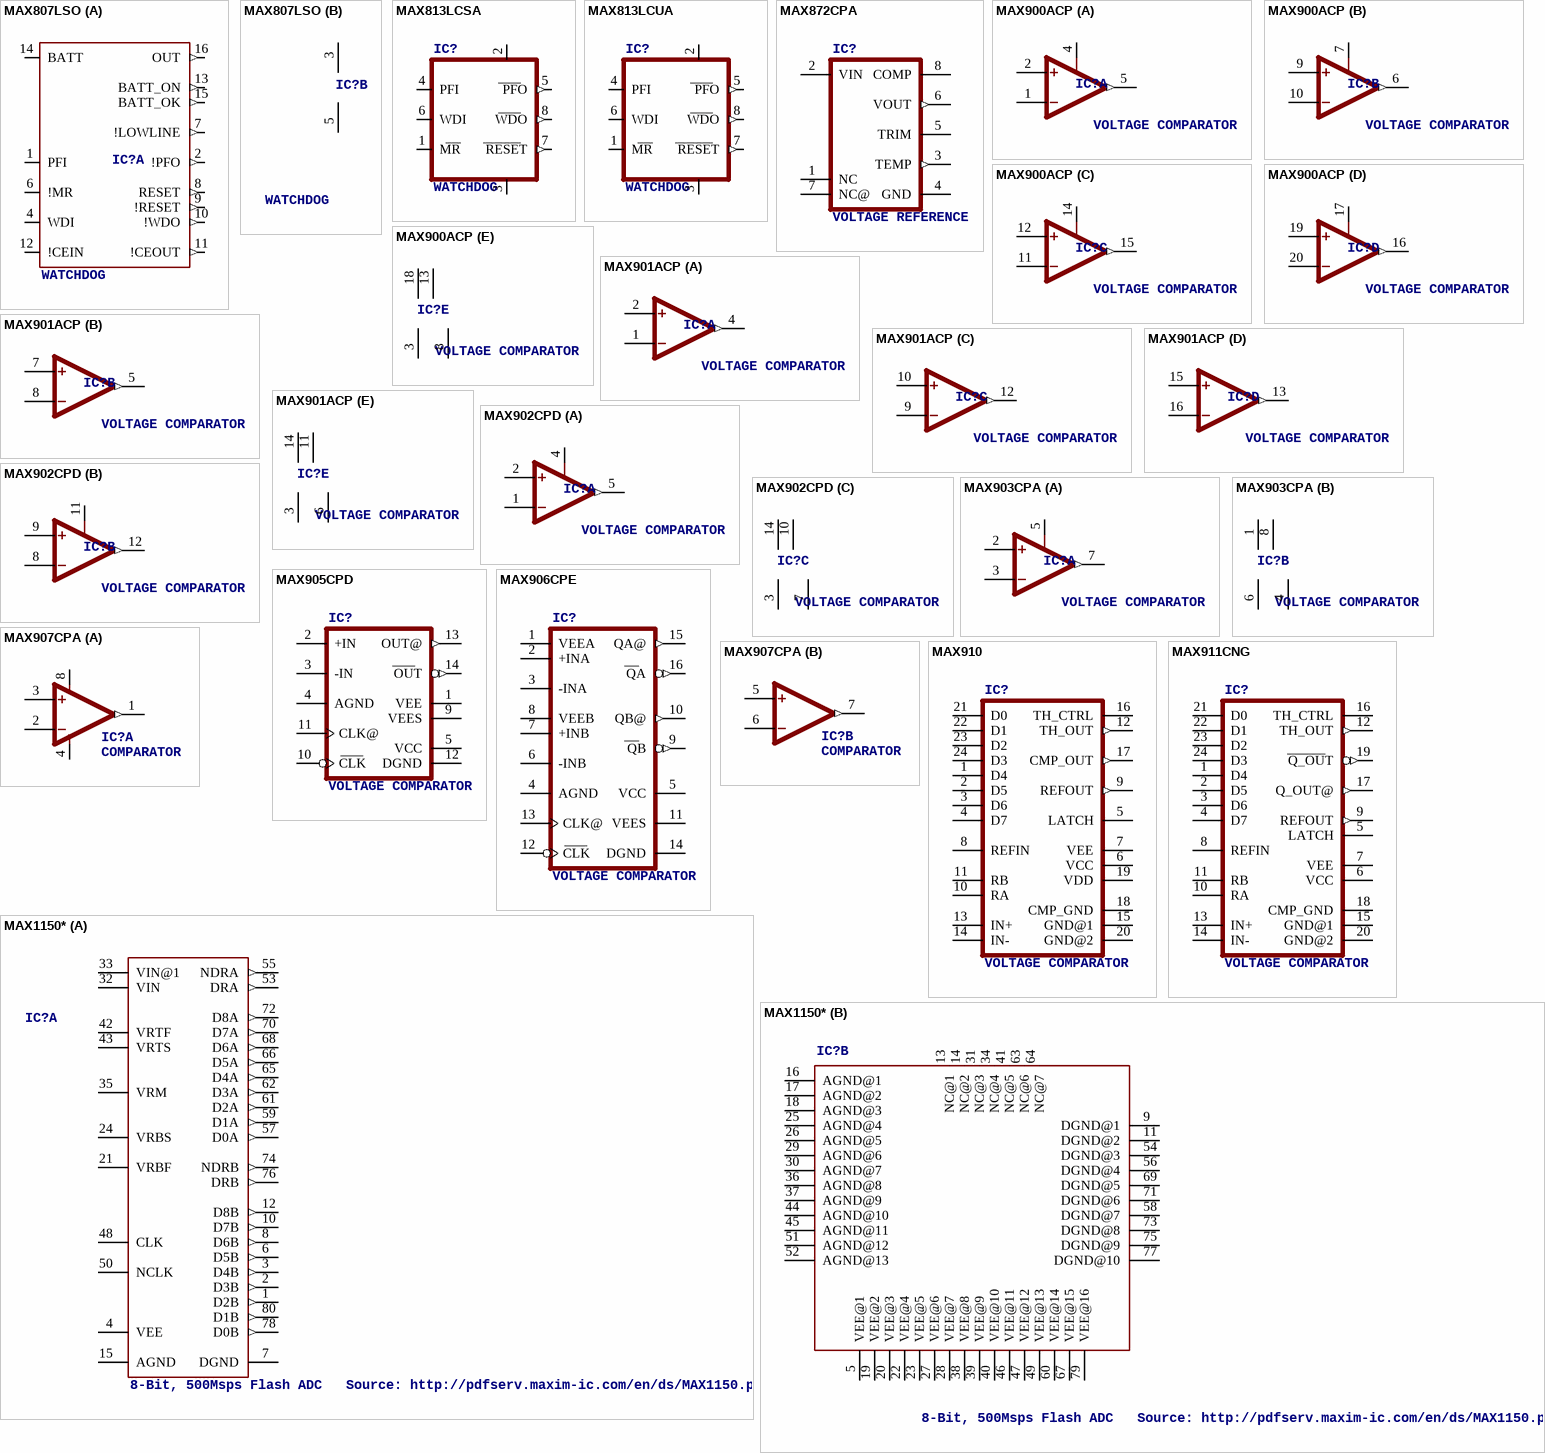
[diagram p21: symbols MAX807LSO to MAX1150*]

## MAX807LSO
designator IC?, comment WATCHDOG
OC_FARNELL: unknown; OC_NEWARK: unknown
footprint SO16
part A pins: 1 PFI, 2 !PFO (out), 4 WDI, 6 !MR, 7 !LOWLINE (out), 8 RESET (out), 9 !RESET (out), 10 !WDO (out), 11 !CEOUT (out), 12 !CEIN, 13 BATT_ON (out), 14 BATT, 15 BATT_OK (out), 16 OUT (out)
part B pins: 3 VCC (power), 5 GND (power)

## MAX813LCSA
designator IC?, comment WATCHDOG
MPN: MAX813LCSA; MF: MAXIM; OC_FARNELL: unknown; OC_NEWARK: 34C4031
footprint SO08
pins: 1 MR, 2 VCC (power), 3 GND (power), 4 PFI, 5 PFO (out), 6 WDI, 7 RESET (out), 8 WDO (out)

## MAX813LCUA
designator IC?, comment WATCHDOG
OC_FARNELL: unknown; OC_NEWARK: unknown
footprint DIL08
pins: 1 MR, 2 VCC (power), 3 GND (power), 4 PFI, 5 PFO (out), 6 WDI, 7 RESET (out), 8 WDO (out)

## MAX872CPA
designator IC?, comment VOLTAGE REFERENCE
OC_FARNELL: unknown; OC_NEWARK: unknown
footprint DIL08
pins: 1 NC, 2 VIN, 3 TEMP (out), 4 GND (power), 5 TRIM, 6 VOUT (out), 7 NC@, 8 COMP

## MAX900ACP
designator IC?, comment VOLTAGE COMPARATOR
OC_FARNELL: unknown; OC_NEWARK: unknown
footprint DIL20
part A pins: 1 -IN, 2 +IN, 4 LATCH, 5 OUT (out)
part B pins: 6 OUT (out), 7 LATCH, 9 +IN, 10 -IN
part C pins: 11 -IN, 12 +IN, 14 LATCH, 15 OUT (out)
part D pins: 16 OUT (out), 17 LATCH, 19 +IN, 20 -IN
part E pins: 3 GND (power), 8 VEE (power), 13 VDD (power), 18 VCC (power)

## MAX901ACP
designator IC?, comment VOLTAGE COMPARATOR
MPN: MAX901ACPE; MF: MAXIM; OC_FARNELL: unknown; OC_NEWARK: 91C2935
footprint DIL16
part A pins: 1 -IN, 2 +IN, 4 OUT (out)
part B pins: 5 OUT (out), 7 +IN, 8 -IN
part C pins: 9 -IN, 10 +IN, 12 OUT (out)
part D pins: 13 OUT (out), 15 +IN, 16 -IN
part E pins: 3 GND (power), 6 VEE (power), 11 VDD (power), 14 VCC (power)

## MAX902CPD
designator IC?, comment VOLTAGE COMPARATOR
MPN: MAX902CPD; MF: MAXIM; OC_FARNELL: unknown; OC_NEWARK: 91C2947
footprint DIL14
part A pins: 1 -IN, 2 +IN, 4 LATCH, 5 OUT (out)
part B pins: 8 -IN, 9 +IN, 11 LATCH, 12 OUT (out)
part C pins: 3 GND (power), 7 VEE (power), 10 VDD (power), 14 VCC (power)

## MAX903CPA
designator IC?, comment VOLTAGE COMPARATOR
MPN: MAX903CPA+; MF: MAXIM; OC_FARNELL: unknown; OC_NEWARK: 68K5059
footprint DIL08
part A pins: 2 +IN, 3 -IN, 5 LATCH, 7 OUT (out)
part B pins: 1 VCC (power), 4 VEE (power), 6 GND (power), 8 VDD (power)

## MAX905CPD
designator IC?, comment VOLTAGE COMPARATOR
OC_FARNELL: unknown; OC_NEWARK: unknown
footprint DIL14
pins: 1 VEE (power), 2 +IN, 3 -IN, 4 AGND (power), 5 VCC (power), 9 VEES (power), 10 CLK, 11 CLK@, 12 DGND (power), 13 OUT@ (out), 14 OUT (out)

## MAX906CPE
designator IC?, comment VOLTAGE COMPARATOR
OC_FARNELL: unknown; OC_NEWARK: unknown
footprint DIL16
pins: 1 VEEA (power), 2 +INA, 3 -INA, 4 AGND (power), 5 VCC (power), 6 -INB, 7 +INB, 8 VEEB (power), 9 QB (out), 10 QB@ (out), 11 VEES (power), 12 CLK, 13 CLK@, 14 DGND (power), 15 QA@ (out), 16 QA (out)

## MAX907CPA
designator IC?, comment COMPARATOR
MPN: MAX907CPA; MF: MAXIM; OC_FARNELL: unknown; OC_NEWARK: 79C3004
footprint DIL08
part A pins: 1 OUT (out), 2 -IN, 3 +IN, 4 V- (power), 8 V+ (power)
part B pins: 5 +IN, 6 -IN, 7 OUT (out)

## MAX910
designator IC?, comment VOLTAGE COMPARATOR
OC_FARNELL: unknown; OC_NEWARK: unknown
footprint DIL24-3
pins: 1 D4, 2 D5, 3 D6, 4 D7, 5 LATCH, 6 VCC (power), 7 VEE (power), 8 REFIN, 9 REFOUT (out), 10 RA, 11 RB, 12 TH_OUT (out), 13 IN+, 14 IN-, 15 GND@1 (power), 16 TH_CTRL, 17 CMP_OUT (out), 18 CMP_GND (power), 19 VDD (power), 20 GND@2 (power), 21 D0, 22 D1, 23 D2, 24 D3

## MAX911CNG
designator IC?, comment VOLTAGE COMPARATOR
OC_FARNELL: unknown; OC_NEWARK: unknown
footprint DIL24-3
pins: 1 D4, 2 D5, 3 D6, 4 D7, 5 LATCH, 6 VCC (power), 7 VEE (power), 8 REFIN, 9 REFOUT (out), 10 RA, 11 RB, 12 TH_OUT (out), 13 IN+, 14 IN-, 15 GND@1 (power), 16 TH_CTRL, 17 Q_OUT@ (out), 18 CMP_GND (power), 19 Q_OUT (out), 20 GND@2 (power), 21 D0, 22 D1, 23 D2, 24 D3

## MAX1150*
designator IC?, comment 8-Bit, 500Msps Flash ADC   Source: http://pdfserv.maxim-ic.com/en/ds/MAX1150.pdf
OC_FARNELL: unknown; OC_NEWARK: unknown
footprint MQFP80-2
part A pins: 1 D2B (out), 2 D3B (out), 3 D4B (out), 4 VEE (power), 6 D5B (out), 7 DGND (power), 8 D6B (out), 10 D7B (out), 12 D8B (out), 15 AGND (power), 21 VRBF, 24 VRBS, 32 VIN, 33 VIN@1, 35 VRM, 42 VRTF, 43 VRTS, 48 CLK, 50 NCLK, 53 DRA (out), 55 NDRA (out), 57 D0A (out), 59 D1A (out), 61 D2A (out), 62 D3A (out), 65 D4A (out), 66 D5A (out), 68 D6A (out), 70 D7A (out), 72 D8A (out), 74 NDRB (out), 76 DRB (out), 78 D0B (out), 80 D1B (out)
part B pins: 5 VEE@1 (power), 9 DGND@1 (power), 11 DGND@2 (power), 13 NC@1, 14 NC@2, 16 AGND@1 (power), 17 AGND@2 (power), 18 AGND@3 (power), 19 VEE@2 (power), 20 VEE@3 (power), 22 VEE@4 (power), 23 VEE@5 (power), 25 AGND@4 (power), 26 AGND@5 (power), 27 VEE@6 (power), 28 VEE@7 (power), 29 AGND@6 (power), 30 AGND@7 (power), 31 NC@3, 34 NC@4, 36 AGND@8 (power), 37 AGND@9 (power), 38 VEE@8 (power), 39 VEE@9 (power), 40 VEE@10 (power), 41 NC@5, 44 AGND@10 (power), 45 AGND@11 (power), 46 VEE@11 (power), 47 VEE@12 (power), 49 VEE@13 (power), 51 AGND@12 (power), 52 AGND@13 (power), 54 DGND@3 (power), 56 DGND@4 (power), 58 DGND@7 (power), 60 VEE@14 (power), 63 NC@6, 64 NC@7, 67 VEE@15 (power), 69 DGND@5 (power), 71 DGND@6 (power), 73 DGND@8 (power), 75 DGND@9 (power), 77 DGND@10 (power), 79 VEE@16 (power)

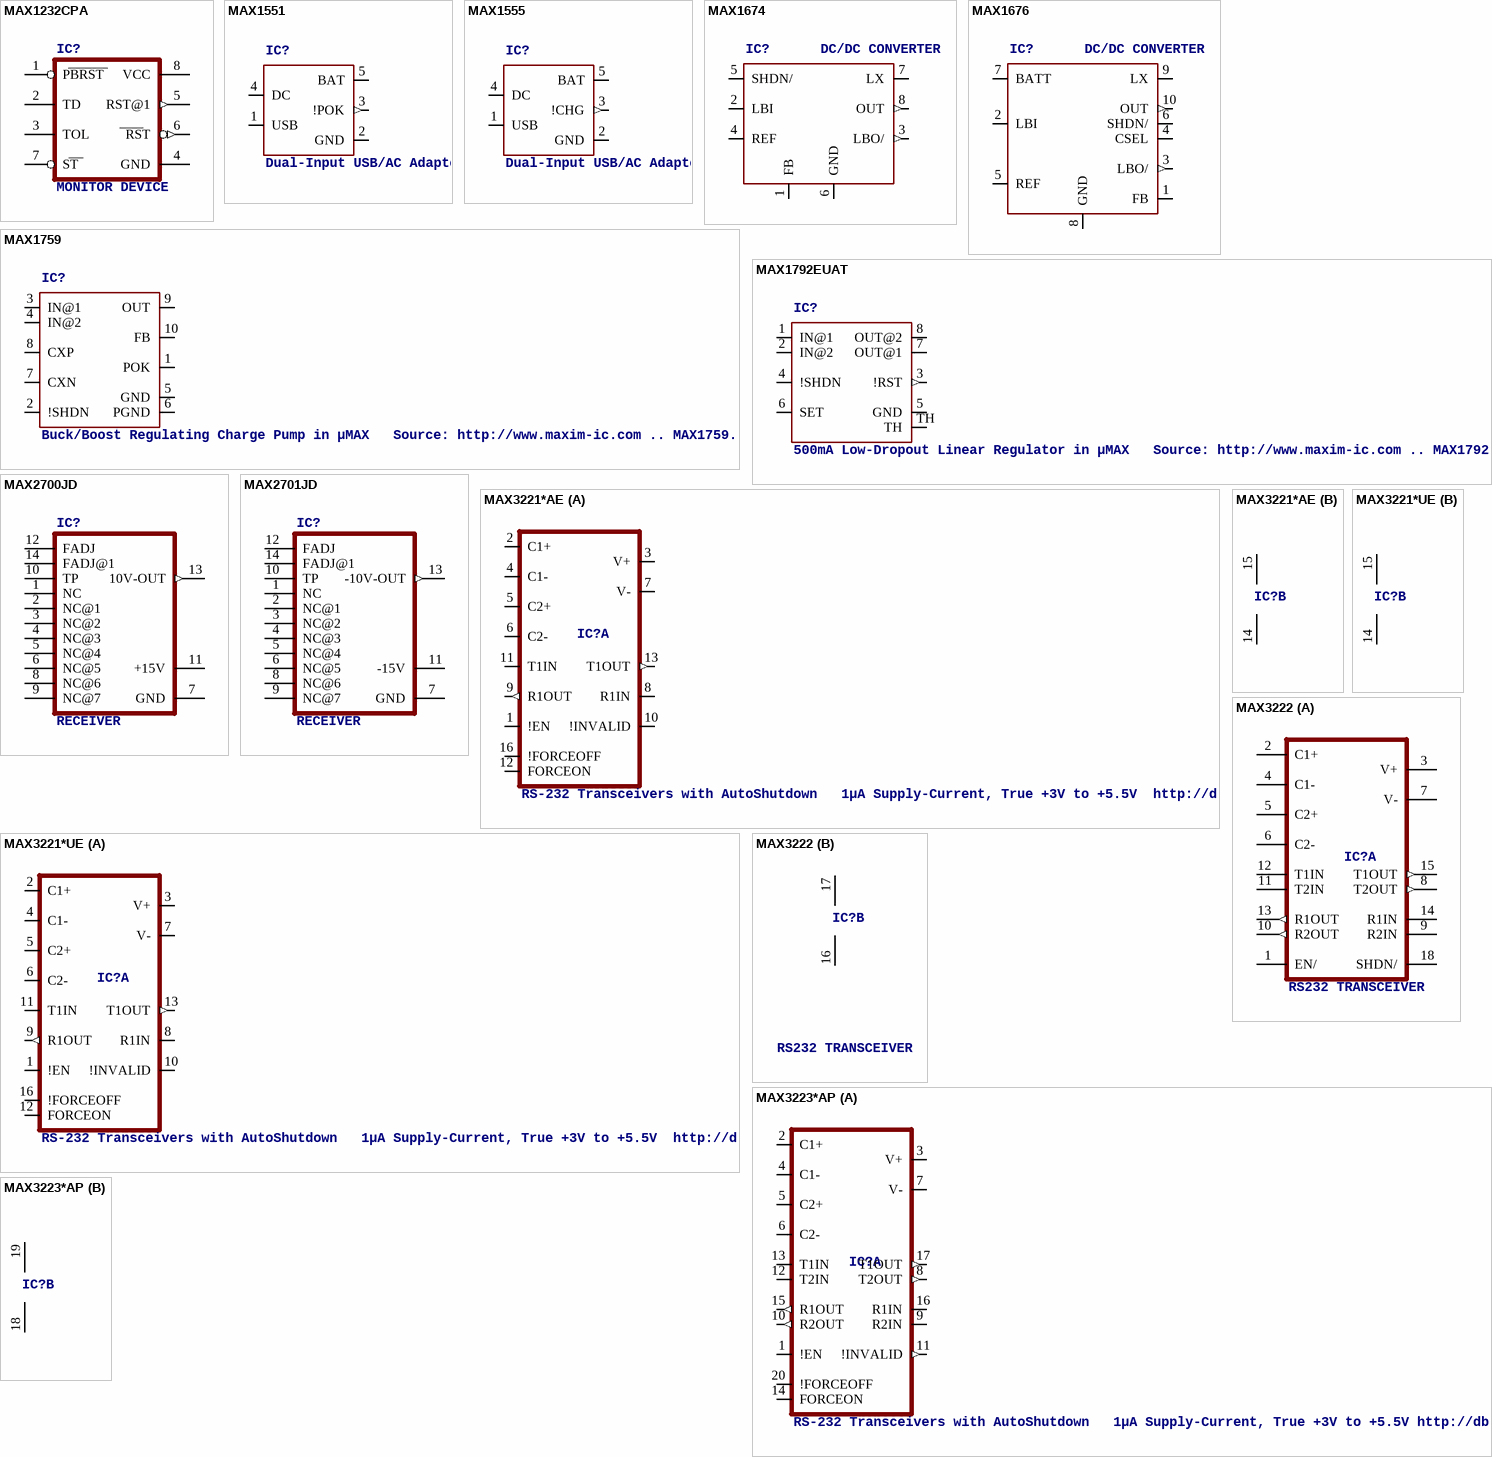
[diagram p22: symbols MAX1232CPA to MAX3223*AP]

## MAX1232CPA
designator IC?, comment MONITOR DEVICE
MPN: MAX1232CPA; OC_FARNELL: 9723757; OC_NEWARK: 34C3766
footprint DIL08
pins: 1 PBRST, 2 TD, 3 TOL, 4 GND (power), 5 RST@1 (out), 6 RST (out), 7 ST, 8 VCC (power)

## MAX1551
designator IC?, comment Dual-Input USB/AC Adapter 1-Cell Li+ Battery Chargers   Source: http://www.maxim-ic.com .. MAX1551-MAX1555.pdf
MPN: MAX1551EZK-T; MF: MAXIM; OC_FARNELL: 1628221; OC_NEWARK: 88H0599
footprint SOT23-5L
pins: 1 USB, 2 GND (power), 3 !POK (out), 4 DC, 5 BAT

## MAX1555
designator IC?, comment Dual-Input USB/AC Adapter 1-Cell Li+ Battery Chargers   Source: http://www.maxim-ic.com .. MAX1551-MAX1555.pdf
MPN: MAX1555EZK+T; MF: MAXIM; OC_FARNELL: 1628222; OC_NEWARK: 59J2761
footprint SOT23-5L
pins: 1 USB, 2 GND (power), 3 !CHG (out), 4 DC, 5 BAT

## MAX1674
designator IC?, comment DC/DC CONVERTER
MPN: MAX1674EUA+; MF: MAXIM; OC_FARNELL: 1379864; OC_NEWARK: 23K5719
footprint UMAX8
pins: 1 FB, 2 LBI, 3 LBO/ (out), 4 REF, 5 SHDN/, 6 GND (power), 7 LX, 8 OUT (out)

## MAX1676
designator IC?, comment DC/DC CONVERTER
MPN: MAX1676EUB+; MF: MAXIM; OC_FARNELL: 9724079; OC_NEWARK: 59J2827
footprint UMAX10
pins: 1 FB, 2 LBI, 3 LBO/ (out), 4 CSEL, 5 REF, 6 SHDN/, 7 BATT, 8 GND (power), 9 LX, 10 OUT (out)

## MAX1759
designator IC?, comment Buck/Boost Regulating Charge Pump in µMAX   Source: http://www.maxim-ic.com .. MAX1759.pdf
MPN: MAX1759EUB+; MF: MAXIM; OC_FARNELL: 1593325; OC_NEWARK: 61H9447
footprint UMAX10
pins: 1 POK (oc), 2 !SHDN, 3 IN@1, 4 IN@2, 5 GND (power), 6 PGND (power), 7 CXN, 8 CXP, 9 OUT, 10 FB

## MAX1792EUAT
designator IC?, comment 500mA Low-Dropout Linear Regulator in µMAX   Source: http://www.maxim-ic.com .. MAX1792-1.pdf
OC_FARNELL: unknown; OC_NEWARK: unknown
footprint UMAX8-THERMAL
pins: 1 IN@1, 2 IN@2, 3 !RST (out), 4 !SHDN, 5 GND (power), 6 SET, 7 OUT@1, 8 OUT@2, TH

## MAX2700JD
designator IC?, comment RECEIVER
OC_FARNELL: unknown; OC_NEWARK: unknown
footprint DIL14
pins: 1 NC, 2 NC@1, 3 NC@2, 4 NC@3, 5 NC@4, 6 NC@5, 7 GND (power), 8 NC@6, 9 NC@7, 10 TP, 11 +15V (power), 12 FADJ, 13 10V-OUT (out), 14 FADJ@1

## MAX2701JD
designator IC?, comment RECEIVER
OC_FARNELL: unknown; OC_NEWARK: unknown
footprint DIL14
pins: 1 NC, 2 NC@1, 3 NC@2, 4 NC@3, 5 NC@4, 6 NC@5, 7 GND (power), 8 NC@6, 9 NC@7, 10 TP, 11 -15V (power), 12 FADJ, 13 -10V-OUT (out), 14 FADJ@1

## MAX3221*AE
designator IC?, comment RS-232 Transceivers with AutoShutdown   1µA Supply-Current, True +3V to +5.5V  http://dbserv.maxim-ic.com/
MPN: MAX3221CAE+; MPN: MAX3221EAE+; MF: MAXIM; OC_FARNELL: 9724508; OC_NEWARK: 53K7474; OC_FARNELL: 9725440; OC_NEWARK: 68K4609
footprint SSOP16
part A pins: 1 !EN, 2 C1+, 3 V+, 4 C1-, 5 C2+, 6 C2-, 7 V-, 8 R1IN, 9 R1OUT (out), 10 !INVALID, 11 T1IN, 12 FORCEON, 13 T1OUT (out), 16 !FORCEOFF
part B pins: 14 GND (power), 15 VCC (power)

## MAX3221*UE
designator IC?, comment RS-232 Transceivers with AutoShutdown   1µA Supply-Current, True +3V to +5.5V  http://dbserv.maxim-ic.com/
MPN: MAX3221CUE+; MPN: MAX3221EUE+; MF: MAXIM; OC_FARNELL: 1379915; OC_NEWARK: 68K4608; OC_FARNELL: 1379916; OC_NEWARK: 67K4827
footprint TSSOP16
part A pins: 1 !EN, 2 C1+, 3 V+, 4 C1-, 5 C2+, 6 C2-, 7 V-, 8 R1IN, 9 R1OUT (out), 10 !INVALID, 11 T1IN, 12 FORCEON, 13 T1OUT (out), 16 !FORCEOFF
part B pins: 14 GND (power), 15 VCC (power)

## MAX3222
designator IC?, comment RS232 TRANSCEIVER
MPN: MAX3222EPN+; OC_FARNELL: 1188044; OC_NEWARK: 99K3237
footprint DIL18
part A pins: 1 EN/, 2 C1+, 3 V+, 4 C1-, 5 C2+, 6 C2-, 7 V-, 8 T2OUT (out), 9 R2IN, 10 R2OUT (out), 11 T2IN, 12 T1IN, 13 R1OUT (out), 14 R1IN, 15 T1OUT (out), 18 SHDN/
part B pins: 16 GND (power), 17 VCC (power)

## MAX3223*AP
designator IC?, comment RS-232 Transceivers with AutoShutdown   1µA Supply-Current, True +3V to +5.5V http://dbserv.maxim-ic.com/
MPN: MAX3223CAP+; MPN: MAX3223EAP+; MF: MAXIM; OC_FARNELL: 9725474; OC_NEWARK: 68K4615; OC_FARNELL: 9725482; OC_NEWARK: 68K4618
footprint SSOP20
part A pins: 1 !EN, 2 C1+, 3 V+, 4 C1-, 5 C2+, 6 C2-, 7 V-, 8 T2OUT (out), 9 R2IN, 10 R2OUT (out), 11 !INVALID (out), 12 T2IN, 13 T1IN, 14 FORCEON, 15 R1OUT (out), 16 R1IN, 17 T1OUT (out), 20 !FORCEOFF
part B pins: 18 GND (power), 19 VCC (power)

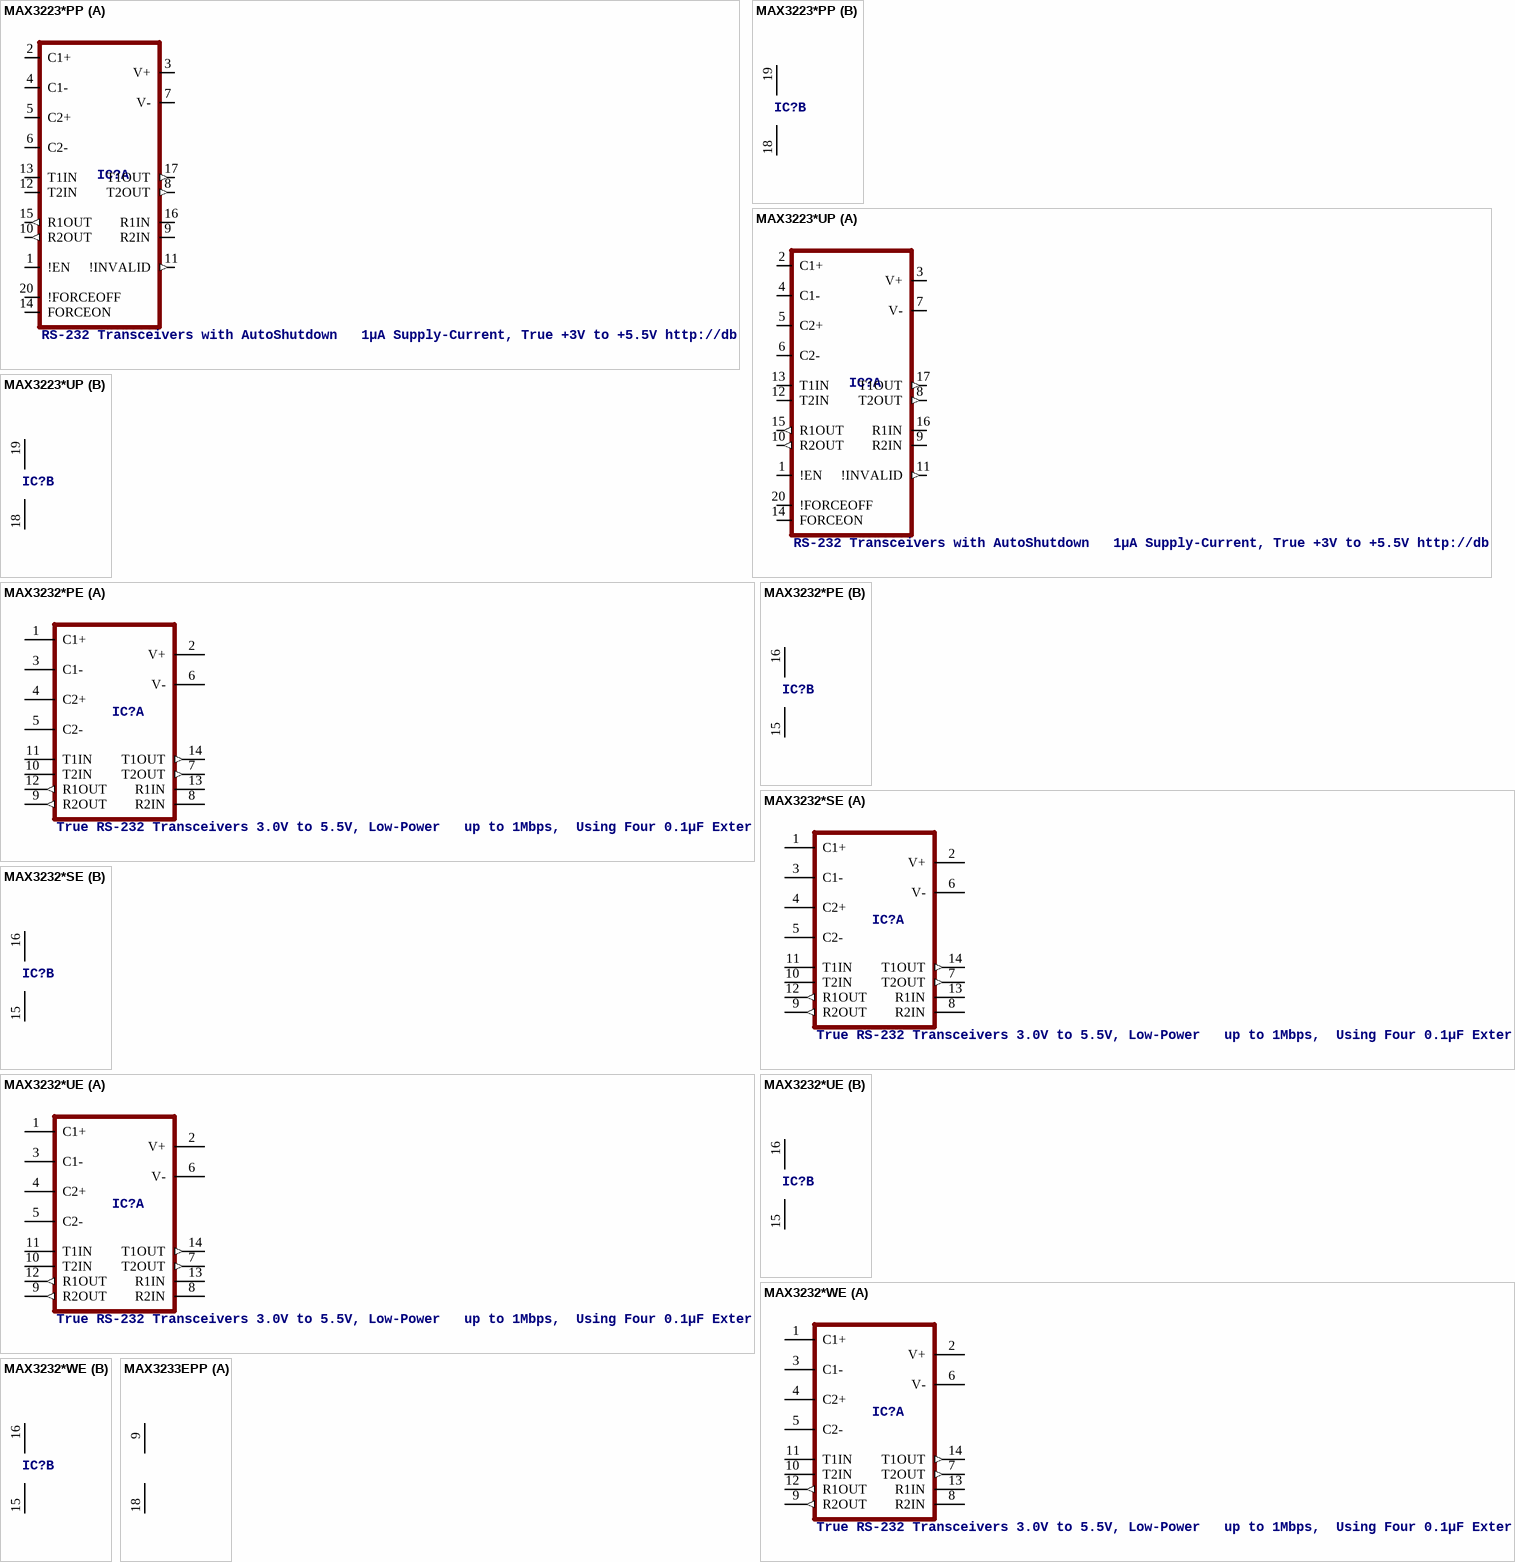
[diagram p23: symbols MAX3223*PP to MAX3233EPP]

## MAX3223*PP
designator IC?, comment RS-232 Transceivers with AutoShutdown   1µA Supply-Current, True +3V to +5.5V http://dbserv.maxim-ic.com/
MPN: MAX3223CPP; MPN: MAX3223EPP+; MF: MAXIM; OC_FARNELL: 1188043; OC_NEWARK: 34C3871; OC_FARNELL: unknown; OC_NEWARK: 19M9596
footprint DIL20
part A pins: 1 !EN, 2 C1+, 3 V+, 4 C1-, 5 C2+, 6 C2-, 7 V-, 8 T2OUT (out), 9 R2IN, 10 R2OUT (out), 11 !INVALID (out), 12 T2IN, 13 T1IN, 14 FORCEON, 15 R1OUT (out), 16 R1IN, 17 T1OUT (out), 20 !FORCEOFF
part B pins: 18 GND (power), 19 VCC (power)

## MAX3223*UP
designator IC?, comment RS-232 Transceivers with AutoShutdown   1µA Supply-Current, True +3V to +5.5V http://dbserv.maxim-ic.com/
MPN: MAX3223CUP; MPN: MAX3223EUP+; MF: MAXIM; OC_FARNELL: unknown; OC_NEWARK: 90C2820; OC_NEWARK: 68K4621
footprint TSSOP20
part A pins: 1 !EN, 2 C1+, 3 V+, 4 C1-, 5 C2+, 6 C2-, 7 V-, 8 T2OUT (out), 9 R2IN, 10 R2OUT (out), 11 !INVALID (out), 12 T2IN, 13 T1IN, 14 FORCEON, 15 R1OUT (out), 16 R1IN, 17 T1OUT (out), 20 !FORCEOFF
part B pins: 18 GND (power), 19 VCC (power)

## MAX3232*PE
designator IC?, comment True RS-232 Transceivers 3.0V to 5.5V, Low-Power   up to 1Mbps,  Using Four 0.1µF External Capacitors Source: http://pdfserv.maxim-ic.com/en/ds/MAX3222-MAX3241.pdf
MPN: MAX3232CPE+; MPN: MAX3232EPE+; MF: MAXIM; OC_FARNELL: 9724494; OC_NEWARK: 68K4626; OC_FARNELL: unknown; OC_NEWARK: 67K4860
footprint DIL16
part A pins: 1 C1+, 2 V+, 3 C1-, 4 C2+, 5 C2-, 6 V-, 7 T2OUT (out), 8 R2IN, 9 R2OUT (out), 10 T2IN, 11 T1IN, 12 R1OUT (out), 13 R1IN, 14 T1OUT (out)
part B pins: 15 GND (power), 16 VCC (power)

## MAX3232*SE
designator IC?, comment True RS-232 Transceivers 3.0V to 5.5V, Low-Power   up to 1Mbps,  Using Four 0.1µF External Capacitors Source: http://pdfserv.maxim-ic.com/en/ds/MAX3222-MAX3241.pdf
MPN: MAX3232CSE; MPN: MAX3232ESE; MF: MAXIM; OC_FARNELL: 9725490; OC_NEWARK: 90C2890; OC_FARNELL: 9725539; OC_NEWARK: 79C3880
footprint SO16
part A pins: 1 C1+, 2 V+, 3 C1-, 4 C2+, 5 C2-, 6 V-, 7 T2OUT (out), 8 R2IN, 9 R2OUT (out), 10 T2IN, 11 T1IN, 12 R1OUT (out), 13 R1IN, 14 T1OUT (out)
part B pins: 15 GND (power), 16 VCC (power)

## MAX3232*UE
designator IC?, comment True RS-232 Transceivers 3.0V to 5.5V, Low-Power   up to 1Mbps,  Using Four 0.1µF External Capacitors Source: http://pdfserv.maxim-ic.com/en/ds/MAX3222-MAX3241.pdf
MPN: MAX3232CUE+; MPN: MAX3232EUE+; MF: MAXIM; OC_FARNELL: 1593350; OC_NEWARK: 68K4629; OC_FARNELL: 1379769; OC_NEWARK: 68K4632
footprint TSSOP16
part A pins: 1 C1+, 2 V+, 3 C1-, 4 C2+, 5 C2-, 6 V-, 7 T2OUT (out), 8 R2IN, 9 R2OUT (out), 10 T2IN, 11 T1IN, 12 R1OUT (out), 13 R1IN, 14 T1OUT (out)
part B pins: 15 GND (power), 16 VCC (power)

## MAX3232*WE
designator IC?, comment True RS-232 Transceivers 3.0V to 5.5V, Low-Power   up to 1Mbps,  Using Four 0.1µF External Capacitors Source: http://pdfserv.maxim-ic.com/en/ds/MAX3222-MAX3241.pdf
MPN: MAX3232CWE+; MPN: MAX3232EWE+; MF: MAXIM; OC_FARNELL: 9725504; OC_NEWARK: 68K4630; OC_FARNELL: unknown; OC_NEWARK: 67K4863
footprint SO16L
part A pins: 1 C1+, 2 V+, 3 C1-, 4 C2+, 5 C2-, 6 V-, 7 T2OUT (out), 8 R2IN, 9 R2OUT (out), 10 T2IN, 11 T1IN, 12 R1OUT (out), 13 R1IN, 14 T1OUT (out)
part B pins: 15 GND (power), 16 VCC (power)

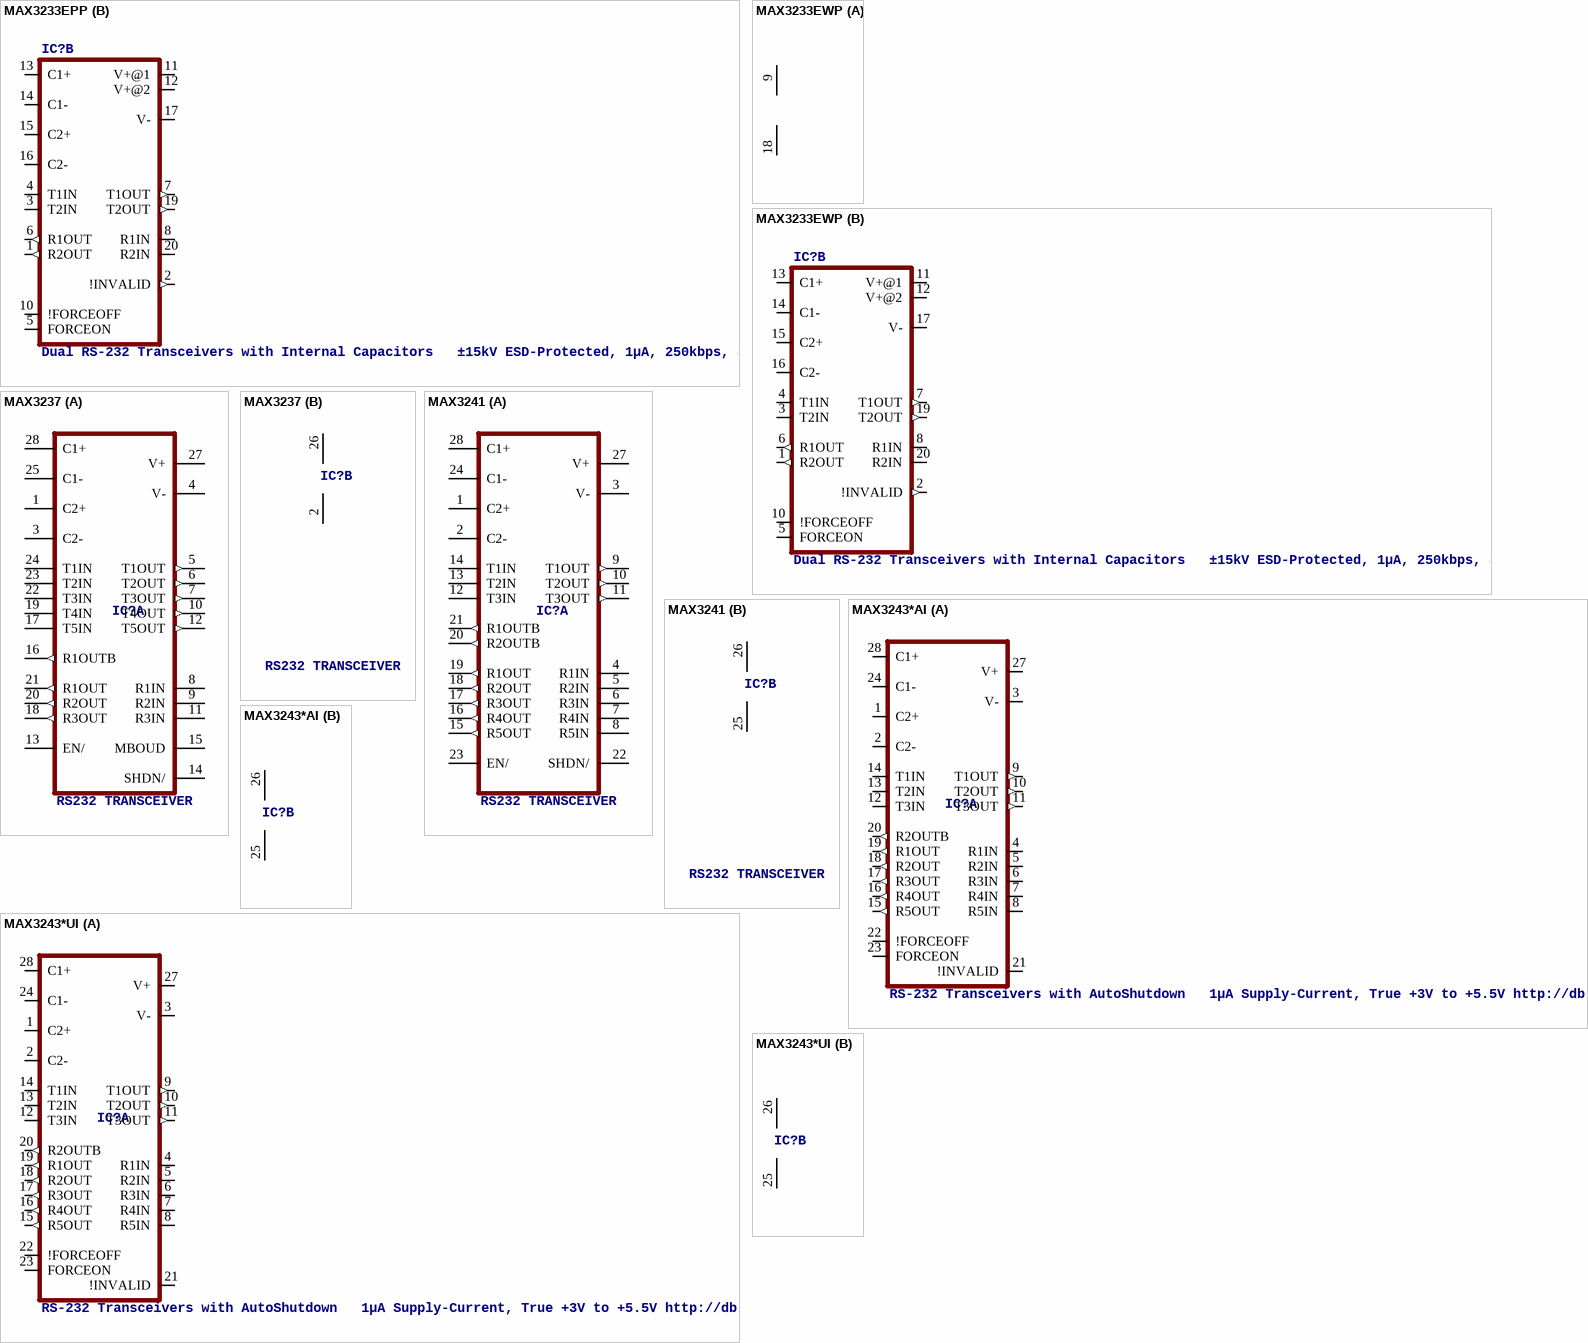
[diagram p24: symbols MAX3233EPP to MAX3243*UI]

## MAX3233EPP
designator IC?, comment Dual RS-232 Transceivers with Internal Capacitors   ±15kV ESD-Protected, 1µA, 250kbps, 3.3V/5V  Source: http://datasheets.maxim-ic.com/en/ds/MAX3233E-MAX3235E.pdf
MPN: MAX3233ECPP+G36; MPN: MAX3233EEPP+G36; OC_FARNELL: unknown; OC_NEWARK: 89K3596; OC_NEWARK: 89K3598
footprint DIL20
part A pins: 9 VCC (power), 18 GND (power)
part B pins: 1 R2OUT (out), 2 !INVALID (out), 3 T2IN, 4 T1IN, 5 FORCEON, 6 R1OUT (out), 7 T1OUT (out), 8 R1IN, 10 !FORCEOFF, 11 V+@1, 12 V+@2, 13 C1+, 14 C1-, 15 C2+, 16 C2-, 17 V-, 19 T2OUT (out), 20 R2IN

## MAX3233EWP
designator IC?, comment Dual RS-232 Transceivers with Internal Capacitors   ±15kV ESD-Protected, 1µA, 250kbps, 3.3V/5V  Source: http://datasheets.maxim-ic.com/en/ds/MAX3233E-MAX3235E.pdf
MPN: MAX3233ECWP; MPN: MAX3233EEWP+G36; MF: MAXIM; OC_FARNELL: unknown; OC_NEWARK: 77C9167; OC_NEWARK: 89K3599
footprint SO20L
part A pins: 9 VCC (power), 18 GND (power)
part B pins: 1 R2OUT (out), 2 !INVALID (out), 3 T2IN, 4 T1IN, 5 FORCEON, 6 R1OUT (out), 7 T1OUT (out), 8 R1IN, 10 !FORCEOFF, 11 V+@1, 12 V+@2, 13 C1+, 14 C1-, 15 C2+, 16 C2-, 17 V-, 19 T2OUT (out), 20 R2IN

## MAX3237
designator IC?, comment RS232 TRANSCEIVER
OC_FARNELL: unknown; OC_NEWARK: unknown
footprint DIL28-6
part A pins: 1 C2+, 3 C2-, 4 V-, 5 T1OUT (out), 6 T2OUT (out), 7 T3OUT (out), 8 R1IN, 9 R2IN, 10 T4OUT (out), 11 R3IN, 12 T5OUT (out), 13 EN/, 14 SHDN/, 15 MBOUD, 16 R1OUTB (out), 17 T5IN, 18 R3OUT (out), 19 T4IN, 20 R2OUT (out), 21 R1OUT (out), 22 T3IN, 23 T2IN, 24 T1IN, 25 C1-, 27 V+, 28 C1+
part B pins: 2 GND (power), 26 VCC (power)

## MAX3241
designator IC?, comment RS232 TRANSCEIVER
OC_FARNELL: unknown; OC_NEWARK: unknown
footprint DIL28-6
part A pins: 1 C2+, 2 C2-, 3 V-, 4 R1IN, 5 R2IN, 6 R3IN, 7 R4IN, 8 R5IN, 9 T1OUT (out), 10 T2OUT (out), 11 T3OUT (out), 12 T3IN, 13 T2IN, 14 T1IN, 15 R5OUT (out), 16 R4OUT (out), 17 R3OUT (out), 18 R2OUT (out), 19 R1OUT (out), 20 R2OUTB (out), 21 R1OUTB (out), 22 SHDN/, 23 EN/, 24 C1-, 27 V+, 28 C1+
part B pins: 25 GND (power), 26 VCC (power)

## MAX3243*AI
designator IC?, comment RS-232 Transceivers with AutoShutdown   1µA Supply-Current, True +3V to +5.5V http://dbserv.maxim-ic.com/
MPN: MAX3243CAI+; MPN: MAX3243EAI+; MF: MAXIM; OC_FARNELL: 1379933; OC_NEWARK: 59K9409; OC_FARNELL: unknown; OC_NEWARK: 67K4901
footprint SSOP28
part A pins: 1 C2+, 2 C2-, 3 V-, 4 R1IN, 5 R2IN, 6 R3IN, 7 R4IN, 8 R5IN, 9 T1OUT (out), 10 T2OUT (out), 11 T3OUT (out), 12 T3IN, 13 T2IN, 14 T1IN, 15 R5OUT (out), 16 R4OUT (out), 17 R3OUT (out), 18 R2OUT (out), 19 R1OUT (out), 20 R2OUTB (out), 21 !INVALID, 22 !FORCEOFF, 23 FORCEON, 24 C1-, 27 V+, 28 C1+
part B pins: 25 GND (power), 26 VCC (power)

## MAX3243*UI
designator IC?, comment RS-232 Transceivers with AutoShutdown   1µA Supply-Current, True +3V to +5.5V http://dbserv.maxim-ic.com/
OC_FARNELL: unknown; OC_NEWARK: unknown
footprint TSSOP28
part A pins: 1 C2+, 2 C2-, 3 V-, 4 R1IN, 5 R2IN, 6 R3IN, 7 R4IN, 8 R5IN, 9 T1OUT (out), 10 T2OUT (out), 11 T3OUT (out), 12 T3IN, 13 T2IN, 14 T1IN, 15 R5OUT (out), 16 R4OUT (out), 17 R3OUT (out), 18 R2OUT (out), 19 R1OUT (out), 20 R2OUTB (out), 21 !INVALID, 22 !FORCEOFF, 23 FORCEON, 24 C1-, 27 V+, 28 C1+
part B pins: 25 GND (power), 26 VCC (power)

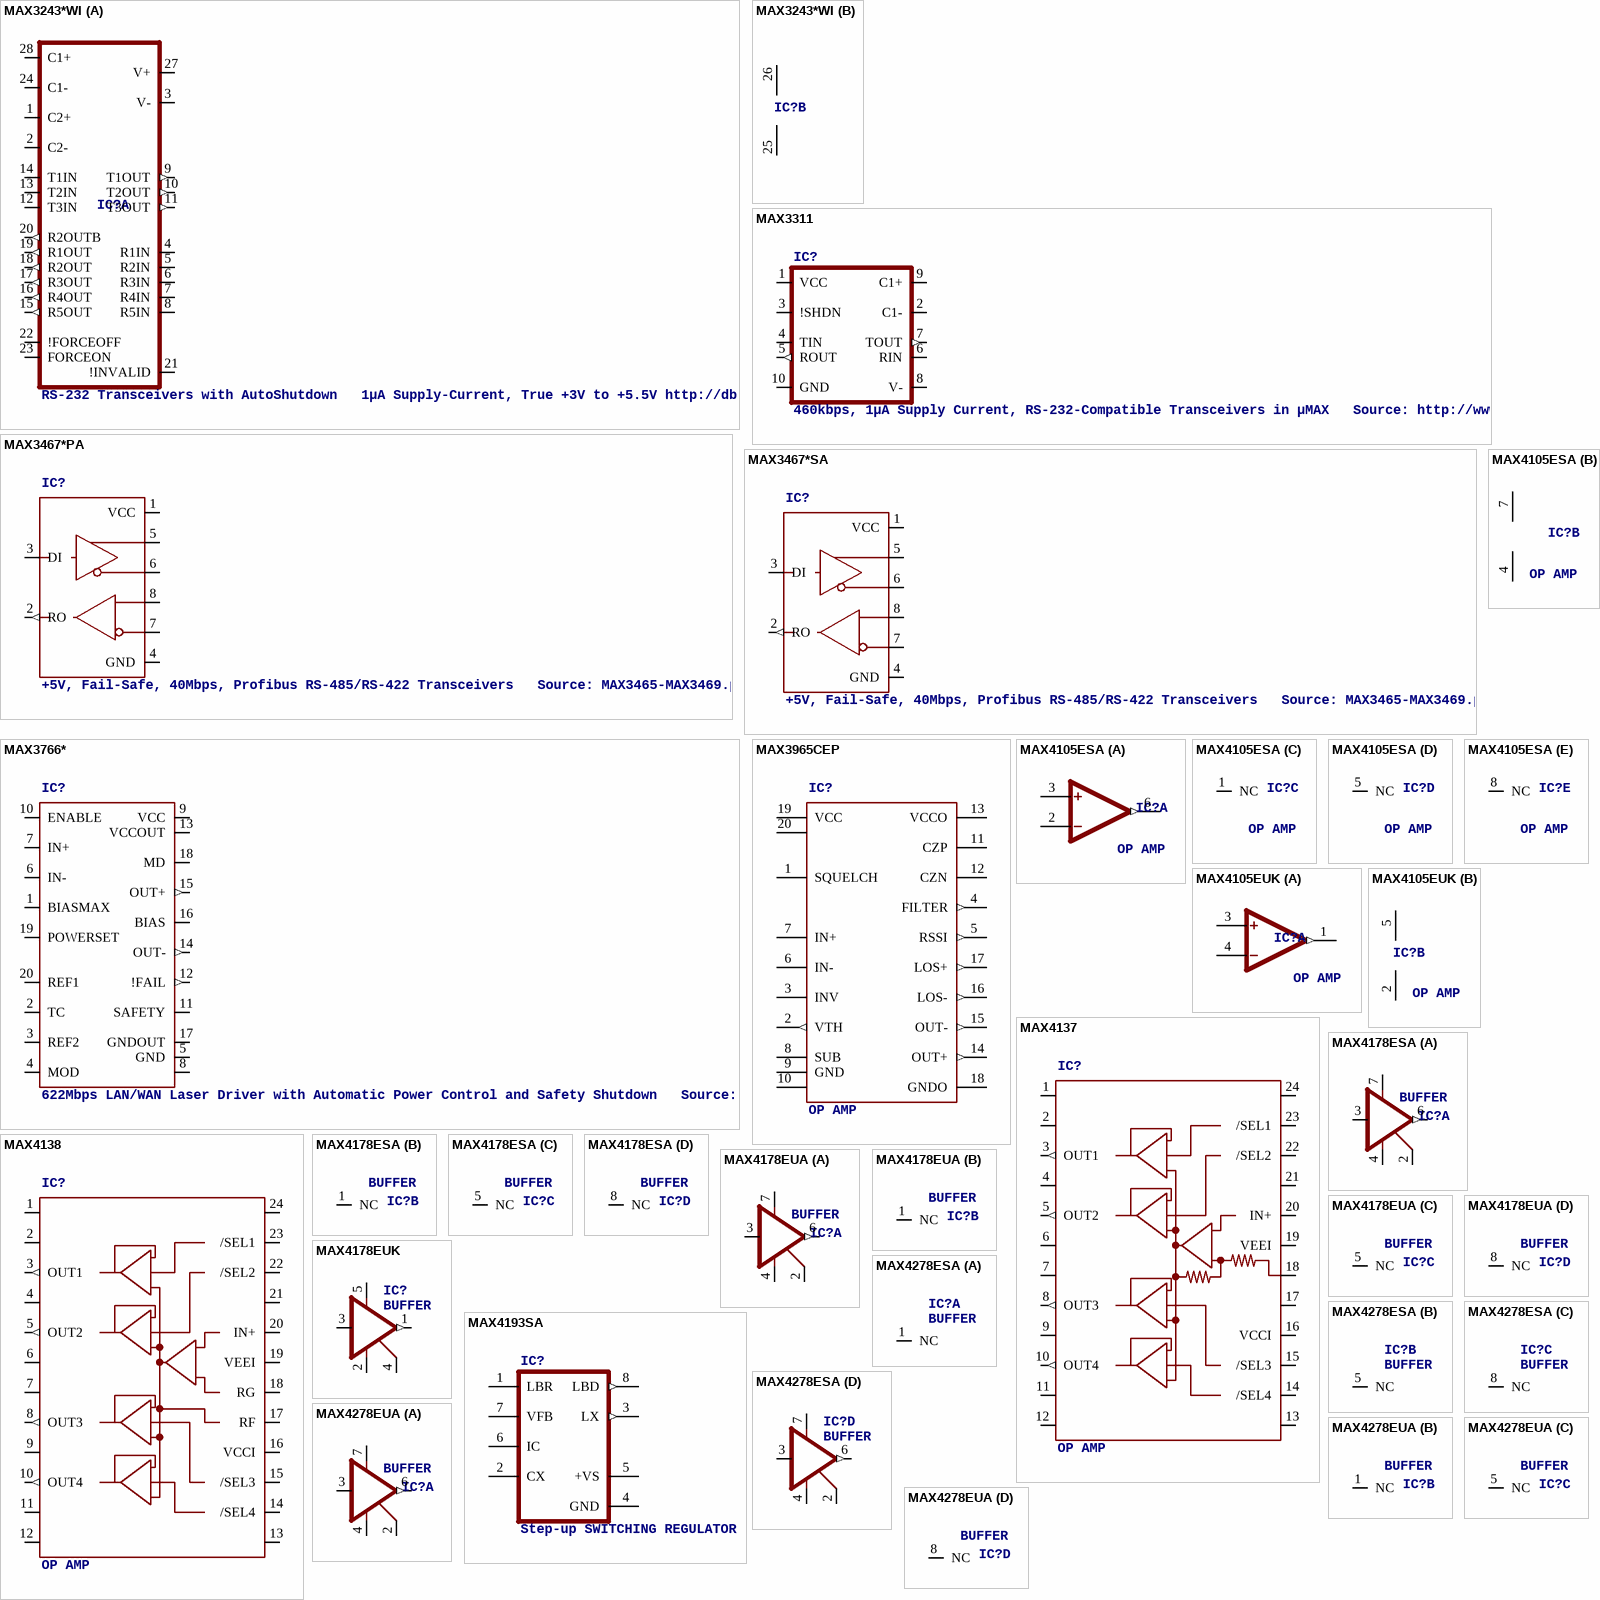
[diagram p25: symbols MAX3243*WI to MAX4278EUA]

## MAX3243*WI
designator IC?, comment RS-232 Transceivers with AutoShutdown   1µA Supply-Current, True +3V to +5.5V http://dbserv.maxim-ic.com/
OC_FARNELL: unknown; OC_NEWARK: unknown
footprint SO28L
part A pins: 1 C2+, 2 C2-, 3 V-, 4 R1IN, 5 R2IN, 6 R3IN, 7 R4IN, 8 R5IN, 9 T1OUT (out), 10 T2OUT (out), 11 T3OUT (out), 12 T3IN, 13 T2IN, 14 T1IN, 15 R5OUT (out), 16 R4OUT (out), 17 R3OUT (out), 18 R2OUT (out), 19 R1OUT (out), 20 R2OUTB (out), 21 !INVALID, 22 !FORCEOFF, 23 FORCEON, 24 C1-, 27 V+, 28 C1+
part B pins: 25 GND (power), 26 VCC (power)

## MAX3311
designator IC?, comment 460kbps, 1µA Supply Current, RS-232-Compatible Transceivers in µMAX   Source: http://www.maxim-ic.com .. MAX3311-MAX3313.pdf
MPN: MAX3311ECUB+; MF: MAXIM; OC_FARNELL: 1379937; OC_NEWARK: 67K4953
footprint UMAX10
pins: 1 VCC (power), 2 C1-, 3 !SHDN, 4 TIN, 5 ROUT (out), 6 RIN, 7 TOUT (out), 8 V-, 9 C1+, 10 GND (power)

## MAX3467*PA
designator IC?, comment +5V, Fail-Safe, 40Mbps, Profibus RS-485/RS-422 Transceivers   Source: MAX3465-MAX3469.pdf
OC_FARNELL: unknown; OC_NEWARK: unknown
footprint SO08
pins: 1 VCC (power), 2 RO (out), 3 DI, 4 GND (power), 5 Y, 6 Z, 7 B, 8 A

## MAX3467*SA
designator IC?, comment +5V, Fail-Safe, 40Mbps, Profibus RS-485/RS-422 Transceivers   Source: MAX3465-MAX3469.pdf
OC_FARNELL: unknown; OC_NEWARK: unknown
footprint DIL08
pins: 1 VCC (power), 2 RO (out), 3 DI, 4 GND (power), 5 Y, 6 Z, 7 B, 8 A

## MAX3766*
designator IC?, comment 622Mbps LAN/WAN Laser Driver with Automatic Power Control and Safety Shutdown   Source: http://pdfserv.maxim-ic.com/en/ds/MAX3766.pdf
MPN: MAX3766EEP+; MF: MAXIM; OC_FARNELL: unknown; OC_NEWARK: 59J3051
footprint QSOP20
pins: 1 BIASMAX, 2 TC, 3 REF2, 4 MOD, 5 GND (power), 6 IN-, 7 IN+, 8 GND@1 (power), 9 VCC (power), 10 ENABLE, 11 SAFETY, 12 !FAIL (out), 13 VCCOUT, 14 OUT- (out), 15 OUT+ (out), 16 BIAS, 17 GNDOUT, 18 MD, 19 POWERSET, 20 REF1

## MAX3965CEP
designator IC?, comment OP AMP
OC_FARNELL: unknown; OC_NEWARK: unknown
footprint QSOP20
pins: 1 SQUELCH, 2 VTH (out), 3 INV, 4 FILTER (out), 5 RSSI (out), 6 IN-, 7 IN+, 8 SUB, 9 GND (power), 10 GND@1 (power), 11 CZP, 12 CZN, 13 VCCO (power), 14 OUT+ (out), 15 OUT- (out), 16 LOS- (out), 17 LOS+ (out), 18 GNDO (power), 19 VCC (power), 20 VCC@1 (power)

## MAX4105ESA
designator IC?, comment OP AMP
MPN: MAX4105ESA+; OC_FARNELL: unknown; OC_NEWARK: 67K5150
footprint SO08
part A pins: 2 -IN, 3 +IN, 6 OUT (out)
part B pins: 4 VEE (power), 7 VCC (power)
part C pins: 1 NC
part D pins: 5 NC
part E pins: 8 NC

## MAX4105EUK
designator IC?, comment OP AMP
MPN: MAX4105EUK+T; OC_FARNELL: unknown; OC_NEWARK: 67K5152
footprint SOT23-5L
part A pins: 1 OUT (out), 3 +IN, 4 -IN
part B pins: 2 VEE (power), 5 VCC (power)